# Altium schematic symbol library Library.SchLib: 352 symbols (part 2 of 2)
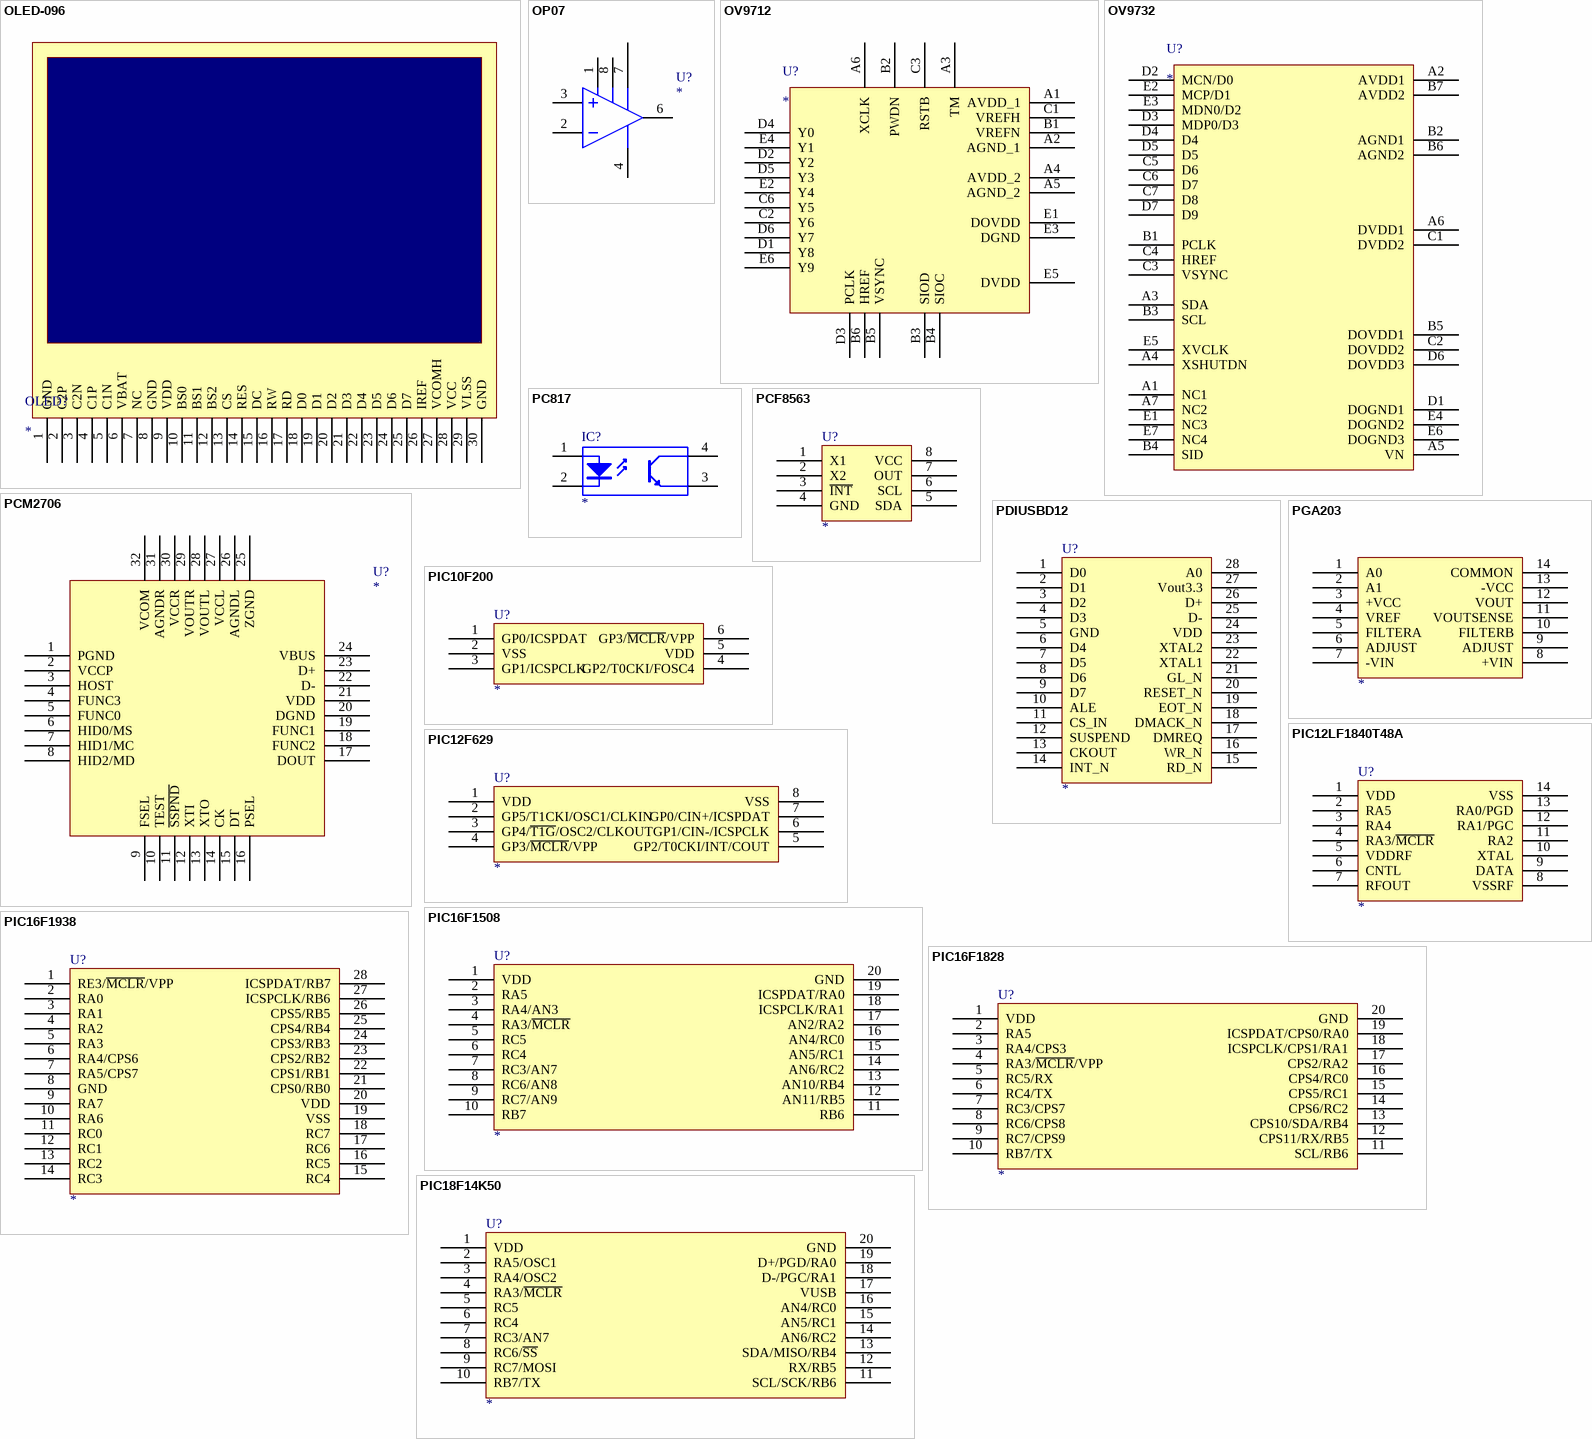
[diagram p23: symbols OLED-096 to PIC18F14K50]

## PIC16F1828
designator U?
footprint TSSOP-20
pins: 1 VDD, 2 RA5, 3 RA4/CPS3, 4 RA3/~{MCLR}/VPP, 5 RC5/RX, 6 RC4/TX, 7 RC3/CPS7, 8 RC6/CPS8, 9 RC7/CPS9, 10 RB7/TX, 11 SCL/RB6, 12 CPS11/RX/RB5, 13 CPS10/SDA/RB4, 14 CPS6/RC2, 15 CPS5/RC1, 16 CPS4/RC0, 17 CPS2/RA2, 18 ICSPCLK/CPS1/RA1, 19 ICSPDAT/CPS0/RA0, 20 GND

## PIC16F1938
designator U?
footprint TSSOP-28
pins: 1 RE3/~{MCLR}/VPP, 2 RA0, 3 RA1, 4 RA2, 5 RA3, 6 RA4/CPS6, 7 RA5/CPS7, 8 GND, 9 RA7, 10 RA6, 11 RC0, 12 RC1, 13 RC2, 14 RC3, 15 RC4, 16 RC5, 17 RC6, 18 RC7, 19 VSS, 20 VDD, 21 CPS0/RB0, 22 CPS1/RB1, 23 CPS2/RB2, 24 CPS3/RB3, 25 CPS4/RB4, 26 CPS5/RB5, 27 ICSPCLK/RB6, 28 ICSPDAT/RB7

## PIC18F14K50
designator U?
footprint TSSOP-20
pins: 1 VDD, 2 RA5/OSC1, 3 RA4/OSC2, 4 RA3/~{MCLR}, 5 RC5, 6 RC4, 7 RC3/AN7, 8 RC6/~{SS}, 9 RC7/MOSI, 10 RB7/TX, 11 SCL/SCK/RB6, 12 RX/RB5, 13 SDA/MISO/RB4, 14 AN6/RC2, 15 AN5/RC1, 16 AN4/RC0, 17 VUSB, 18 D-/PGC/RA1, 19 D+/PGD/RA0, 20 GND

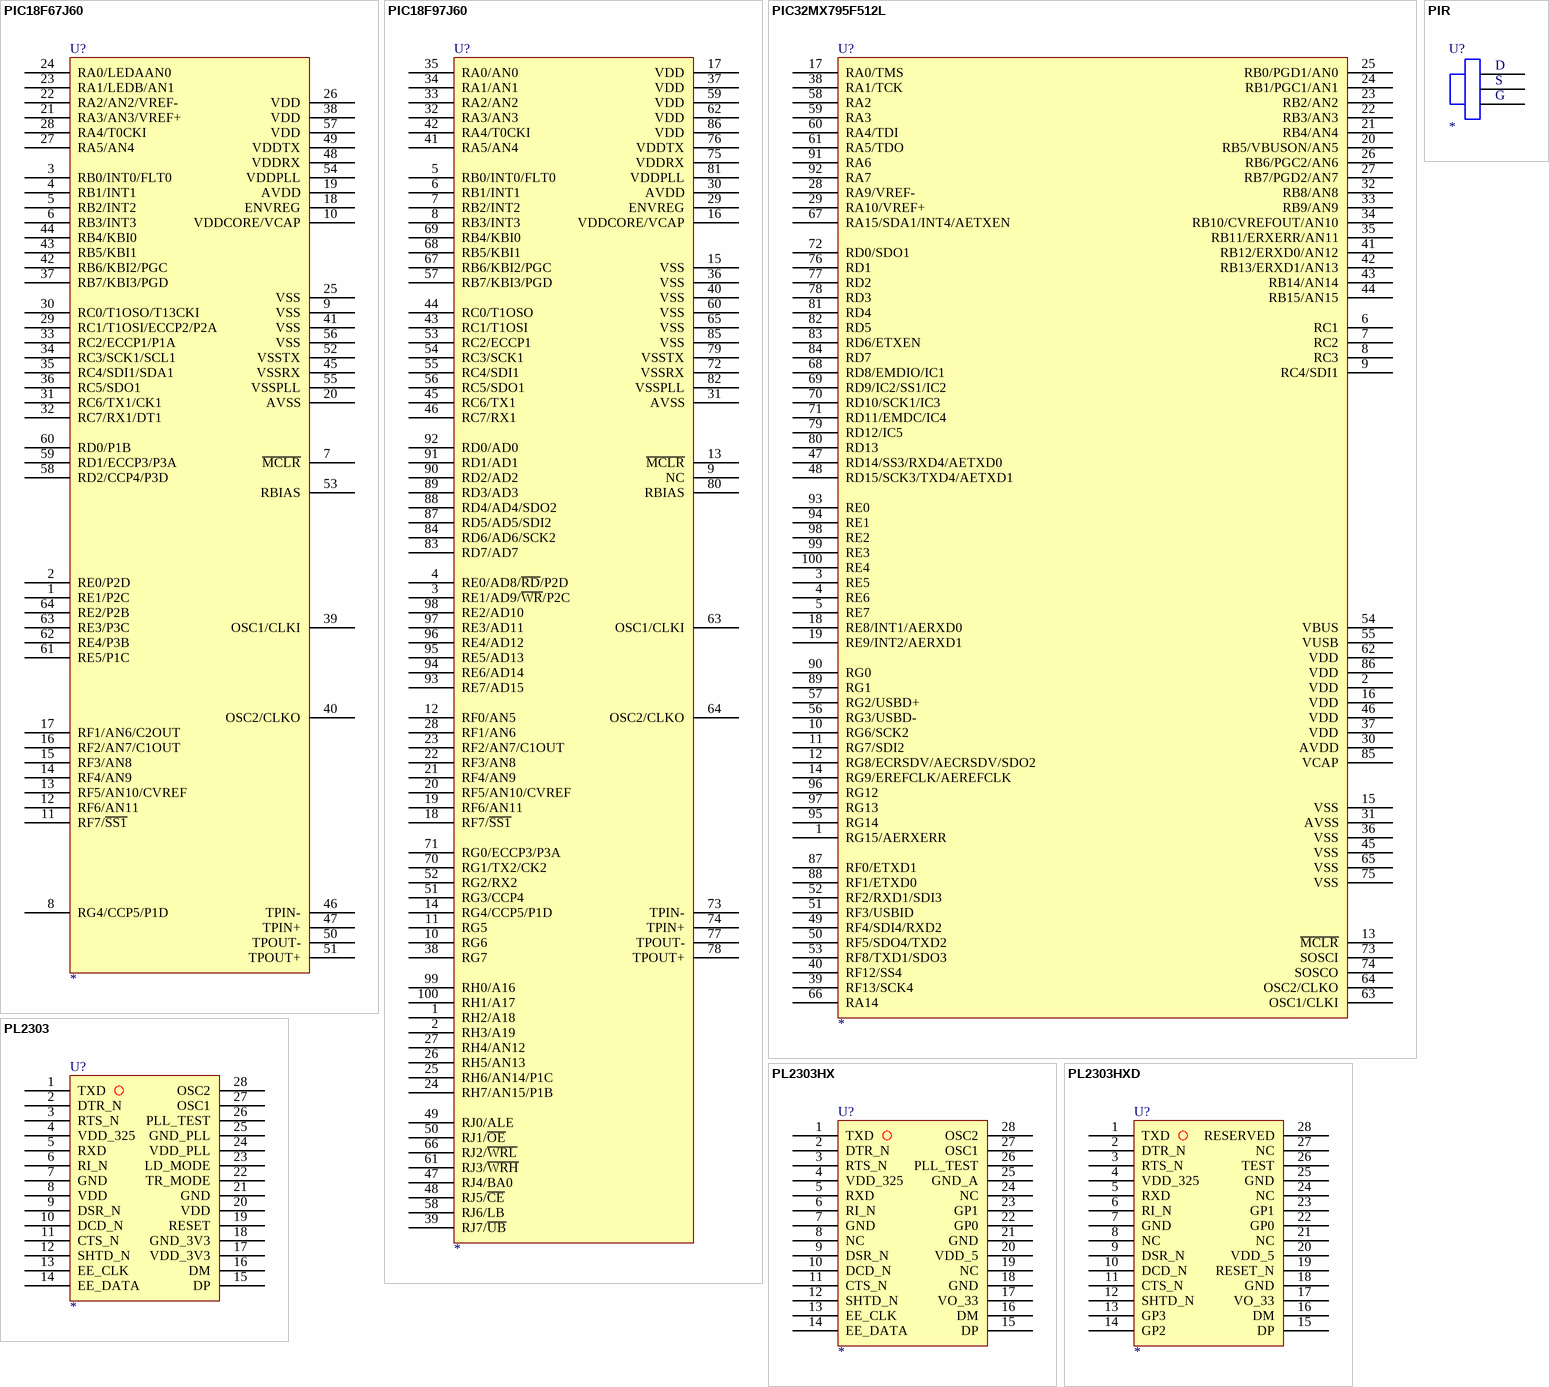
[diagram p12: symbols PIC18F67J60 to PL2303HXD]

## PIC18F67J60
designator U?
footprint LQFP-64
pins: 1 RE1/P2C, 2 RE0/P2D, 3 RB0/INT0/FLT0, 4 RB1/INT1, 5 RB2/INT2, 6 RB3/INT3, 7 ~{MCLR}, 8 RG4/CCP5/P1D, 9 VSS, 10 VDDCORE/VCAP, 11 RF7/~{SS1}, 12 RF6/AN11, 13 RF5/AN10/CVREF, 14 RF4/AN9, 15 RF3/AN8, 16 RF2/AN7/C1OUT, 17 RF1/AN6/C2OUT, 18 ENVREG, 19 AVDD, 20 AVSS, 21 RA3/AN3/VREF+, 22 RA2/AN2/VREF-, 23 RA1/LEDB/AN1, 24 RA0/LEDAAN0, 25 VSS, 26 VDD, 27 RA5/AN4, 28 RA4/T0CKI, 29 RC1/T1OSI/ECCP2/P2A, 30 RC0/T1OSO/T13CKI, 31 RC6/TX1/CK1, 32 RC7/RX1/DT1, 33 RC2/ECCP1/P1A, 34 RC3/SCK1/SCL1, 35 RC4/SDI1/SDA1, 36 RC5/SDO1, 37 RB7/KBI3/PGD, 38 VDD, 39 OSC1/CLKI, 40 OSC2/CLKO, 41 VSS, 42 RB6/KBI2/PGC, 43 RB5/KBI1, 44 RB4/KBI0, 45 VSSRX, 46 TPIN-, 47 TPIN+, 48 VDDRX, 49 VDDTX, 50 TPOUT-, 51 TPOUT+, 52 VSSTX, 53 RBIAS, 54 VDDPLL, 55 VSSPLL, 56 VSS, 57 VDD, 58 RD2/CCP4/P3D, 59 RD1/ECCP3/P3A, 60 RD0/P1B, 61 RE5/P1C, 62 RE4/P3B, 63 RE3/P3C, 64 RE2/P2B

## PIC18F97J60
designator U?
footprint PIC18F97J60
footprint LQFP-100
pins: 1 RH2/A18, 2 RH3/A19, 3 RE1/AD9/~{WR}/P2C, 4 RE0/AD8/~{RD}/P2D, 5 RB0/INT0/FLT0, 6 RB1/INT1, 7 RB2/INT2, 8 RB3/INT3, 9 NC, 10 RG6, 11 RG5, 12 RF0/AN5, 13 ~{MCLR}, 14 RG4/CCP5/P1D, 15 VSS, 16 VDDCORE/VCAP, 17 VDD, 18 RF7/~{SS1}, 19 RF6/AN11, 20 RF5/AN10/CVREF, 21 RF4/AN9, 22 RF3/AN8, 23 RF2/AN7/C1OUT, 24 RH7/AN15/P1B, 25 RH6/AN14/P1C, 26 RH5/AN13, 27 RH4/AN12, 28 RF1/AN6, 29 ENVREG, 30 AVDD, 31 AVSS, 32 RA3/AN3, 33 RA2/AN2, 34 RA1/AN1, 35 RA0/AN0, 36 VSS, 37 VDD, 38 RG7, 39 RJ7/~{UB}, 40 VSS, 41 RA5/AN4, 42 RA4/T0CKI, 43 RC1/T1OSI, 44 RC0/T1OSO, 45 RC6/TX1, 46 RC7/RX1, 47 RJ4/BA0, 48 RJ5/~{CE}, 49 RJ0/ALE, 50 RJ1/~{OE}, 51 RG3/CCP4, 52 RG2/RX2, 53 RC2/ECCP1, 54 RC3/SCK1, 55 RC4/SDI1, 56 RC5/SDO1, 57 RB7/KBI3/PGD, 58 RJ6/LB, 59 VDD, 60 VSS, 61 RJ3/~{WRH}, 62 VDD, 63 OSC1/CLKI, 64 OSC2/CLKO, 65 VSS, 66 RJ2/~{WRL}, 67 RB6/KBI2/PGC, 68 RB5/KBI1, 69 RB4/KBI0, 70 RG1/TX2/CK2, 71 RG0/ECCP3/P3A, 72 VSSRX, 73 TPIN-, 74 TPIN+, 75 VDDRX, 76 VDDTX, 77 TPOUT-, 78 TPOUT+, 79 VSSTX, 80 RBIAS, 81 VDDPLL, 82 VSSPLL, 83 RD7/AD7, 84 RD6/AD6/SCK2, 85 VSS, 86 VDD, 87 RD5/AD5/SDI2, 88 RD4/AD4/SDO2, 89 RD3/AD3, 90 RD2/AD2, 91 RD1/AD1, 92 RD0/AD0, 93 RE7/AD15, 94 RE6/AD14, 95 RE5/AD13, 96 RE4/AD12, 97 RE3/AD11, 98 RE2/AD10, 99 RH0/A16, 100 RH1/A17

## PIC32MX795F512L
designator U?
footprint LQFP-100
pins: 1 RG15/AERXERR, 2 VDD, 3 RE5, 4 RE6, 5 RE7, 6 RC1, 7 RC2, 8 RC3, 9 RC4/SDI1, 10 RG6/SCK2, 11 RG7/SDI2, 12 RG8/ECRSDV/AECRSDV/SDO2, 13 ~{MCLR}, 14 RG9/EREFCLK/AEREFCLK, 15 VSS, 16 VDD, 17 RA0/TMS, 18 RE8/INT1/AERXD0, 19 RE9/INT2/AERXD1, 20 RB5/VBUSON/AN5, 21 RB4/AN4, 22 RB3/AN3, 23 RB2/AN2, 24 RB1/PGC1/AN1, 25 RB0/PGD1/AN0, 26 RB6/PGC2/AN6, 27 RB7/PGD2/AN7, 28 RA9/VREF-, 29 RA10/VREF+, 30 AVDD, 31 AVSS, 32 RB8/AN8, 33 RB9/AN9, 34 RB10/CVREFOUT/AN10, 35 RB11/ERXERR/AN11, 36 VSS, 37 VDD, 38 RA1/TCK, 39 RF13/SCK4, 40 RF12/SS4, 41 RB12/ERXD0/AN12, 42 RB13/ERXD1/AN13, 43 RB14/AN14, 44 RB15/AN15, 45 VSS, 46 VDD, 47 RD14/SS3/RXD4/AETXD0, 48 RD15/SCK3/TXD4/AETXD1, 49 RF4/SDI4/RXD2, 50 RF5/SDO4/TXD2, 51 RF3/USBID, 52 RF2/RXD1/SDI3, 53 RF8/TXD1/SDO3, 54 VBUS, 55 VUSB, 56 RG3/USBD-, 57 RG2/USBD+, 58 RA2, 59 RA3, 60 RA4/TDI, 61 RA5/TDO, 62 VDD, 63 OSC1/CLKI, 64 OSC2/CLKO, 65 VSS, 66 RA14, 67 RA15/SDA1/INT4/AETXEN, 68 RD8/EMDIO/IC1, 69 RD9/IC2/SS1/IC2, 70 RD10/SCK1/IC3, 71 RD11/EMDC/IC4, 72 RD0/SDO1, 73 SOSCI, 74 SOSCO, 75 VSS, 76 RD1, 77 RD2, 78 RD3, 79 RD12/IC5, 80 RD13, 81 RD4, 82 RD5, 83 RD6/ETXEN, 84 RD7, 85 VCAP, 86 VDD, 87 RF0/ETXD1, 88 RF1/ETXD0, 89 RG1, 90 RG0, 91 RA6, 92 RA7, 93 RE0, 94 RE1, 95 RG14, 96 RG12, 97 RG13, 98 RE2, 99 RE3, 100 RE4

## PIR
designator U?
pins: 1 D, 2 S, 3 G

## PL2303
designator U?
footprint TSSOP-28
pins: 1 TXD, 2 DTR_N, 3 RTS_N, 4 VDD_325, 5 RXD, 6 RI_N, 7 GND, 8 VDD, 9 DSR_N, 10 DCD_N, 11 CTS_N, 12 SHTD_N, 13 EE_CLK, 14 EE_DATA, 15 DP, 16 DM, 17 VDD_3V3, 18 GND_3V3, 19 RESET, 20 VDD, 21 GND, 22 TR_MODE, 23 LD_MODE, 24 VDD_PLL, 25 GND_PLL, 26 PLL_TEST, 27 OSC1, 28 OSC2

## PL2303HX
designator U?
footprint TSSOP-28
pins: 1 TXD, 2 DTR_N, 3 RTS_N, 4 VDD_325, 5 RXD, 6 RI_N, 7 GND, 8 NC, 9 DSR_N, 10 DCD_N, 11 CTS_N, 12 SHTD_N, 13 EE_CLK, 14 EE_DATA, 15 DP, 16 DM, 17 VO_33, 18 GND, 19 NC, 20 VDD_5, 21 GND, 22 GP0, 23 GP1, 24 NC, 25 GND_A, 26 PLL_TEST, 27 OSC1, 28 OSC2

## PL2303HXD
designator U?
footprint TSSOP-28
pins: 1 TXD, 2 DTR_N, 3 RTS_N, 4 VDD_325, 5 RXD, 6 RI_N, 7 GND, 8 NC, 9 DSR_N, 10 DCD_N, 11 CTS_N, 12 SHTD_N, 13 GP3, 14 GP2, 15 DP, 16 DM, 17 VO_33, 18 GND, 19 RESET_N, 20 VDD_5, 21 NC, 22 GP0, 23 GP1, 24 NC, 25 GND, 26 TEST, 27 NC, 28 RESERVED

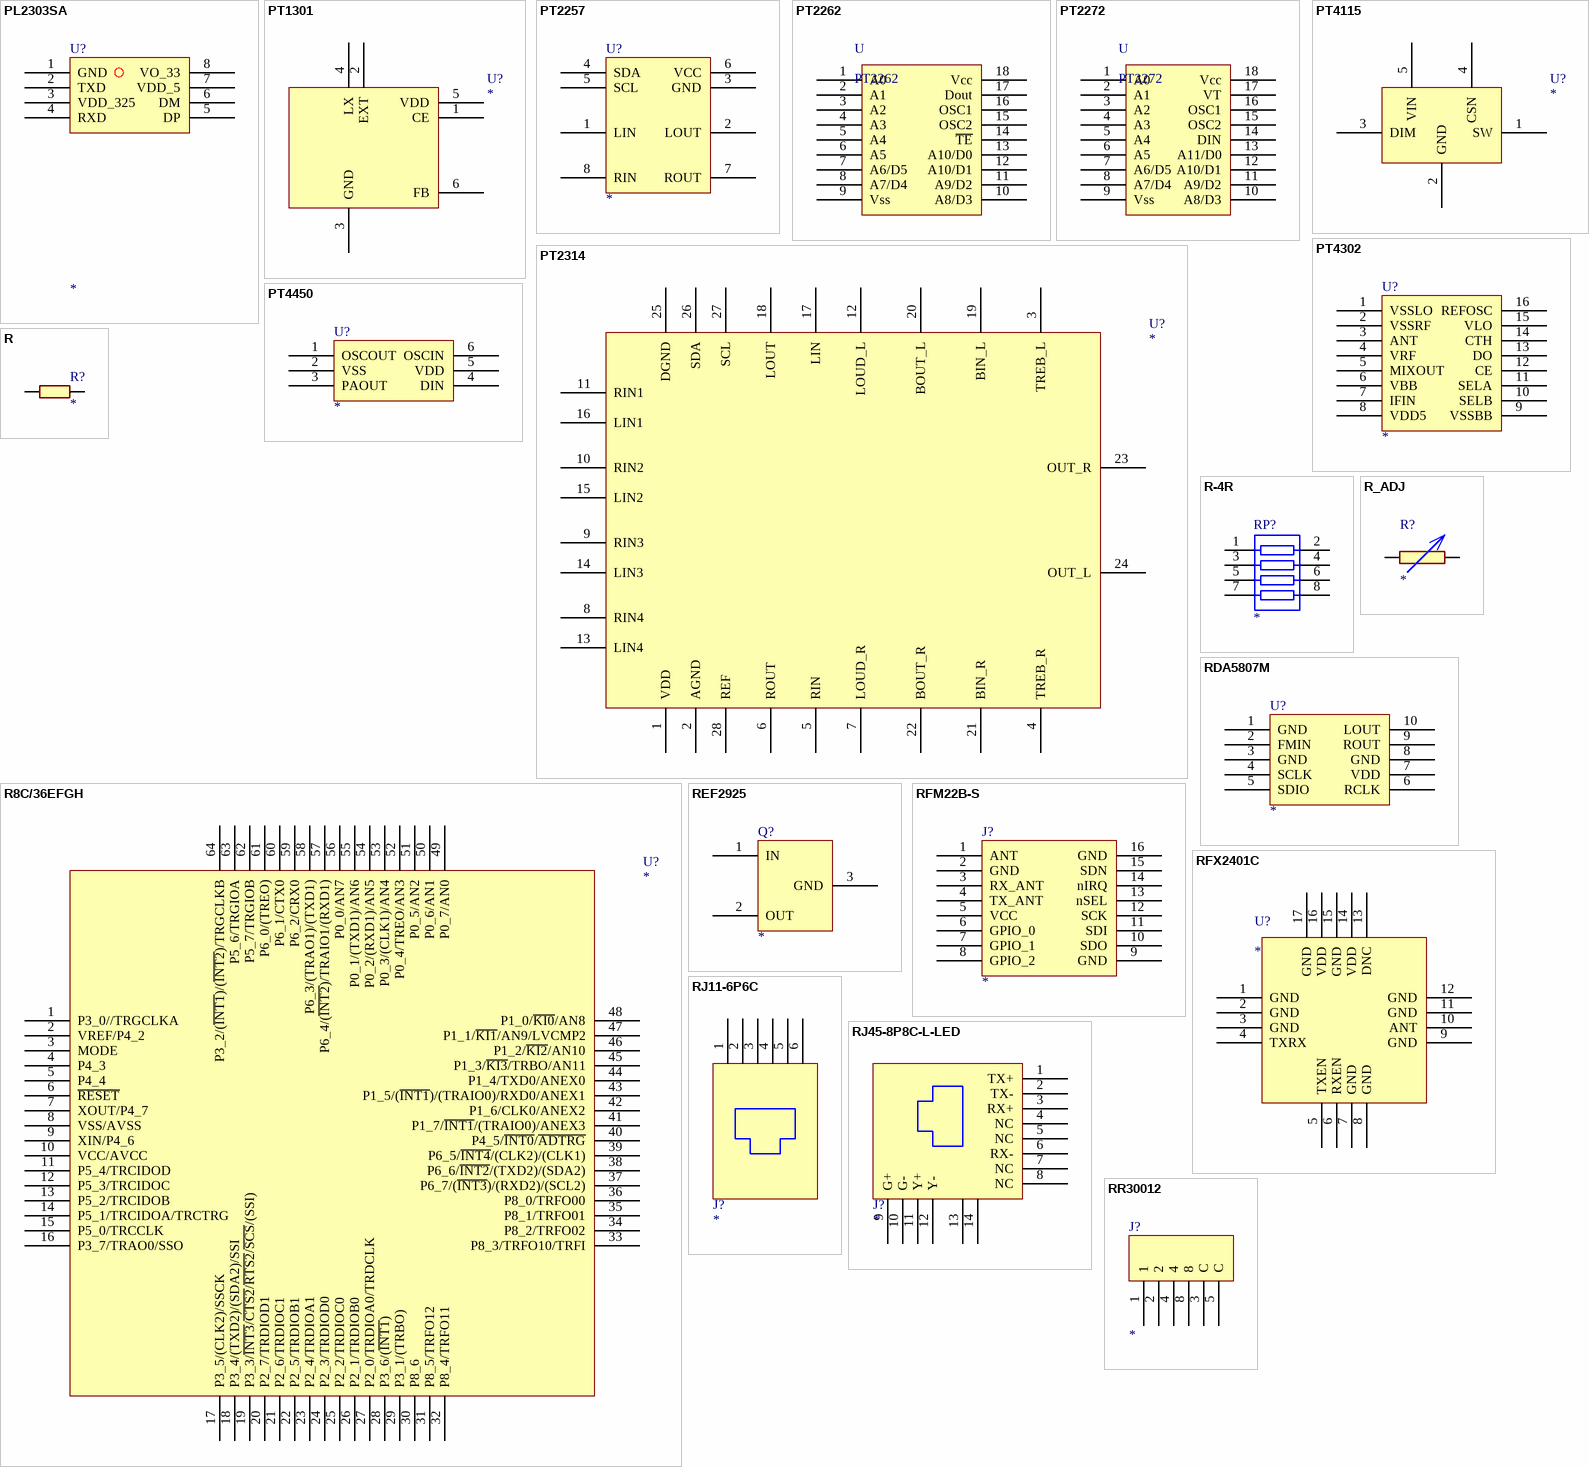
[diagram p13: symbols PL2303SA to RR30012]

## PL2303SA
designator U?
footprint SOP-8
pins: 1 GND, 2 TXD, 3 VDD_325, 4 RXD, 5 DP, 6 DM, 7 VDD_5, 8 VO_33

## PT1301
designator U?
footprint SOT-23-6
pins: 1 CE, 2 EXT, 3 GND, 4 LX, 5 VDD, 6 FB

## PT2257
designator U?
footprint DIP-8
pins: 1 LIN, 2 LOUT, 3 GND, 4 SDA, 5 SCL, 6 VCC, 7 ROUT, 8 RIN

## PT2262
designator U
pins: 1 A0, 2 A1, 3 A2, 4 A3, 5 A4, 6 A5, 7 A6/D5, 8 A7/D4, 9 Vss, 10 A8/D3, 11 A9/D2, 12 A10/D1, 13 A10/D0, 14 ~{TE}, 15 OSC2, 16 OSC1, 17 Dout, 18 Vcc

## PT2272
designator U
decoder
pins: 1 A0, 2 A1, 3 A2, 4 A3, 5 A4, 6 A5, 7 A6/D5, 8 A7/D4, 9 Vss, 10 A8/D3, 11 A9/D2, 12 A10/D1, 13 A11/D0, 14 DIN, 15 OSC2, 16 OSC1, 17 VT, 18 Vcc

## PT2314
designator U?
footprint SOP-28A
pins: 1 VDD, 2 AGND, 3 TREB_L, 4 TREB_R, 5 RIN, 6 ROUT, 7 LOUD_R, 8 RIN4, 9 RIN3, 10 RIN2, 11 RIN1, 12 LOUD_L, 13 LIN4, 14 LIN3, 15 LIN2, 16 LIN1, 17 LIN, 18 LOUT, 19 BIN_L, 20 BOUT_L, 21 BIN_R, 22 BOUT_R, 23 OUT_R, 24 OUT_L, 25 DGND, 26 SDA, 27 SCL, 28 REF

## PT4115
designator U?
pins: 1 SW, 2 GND, 3 DIM, 4 CSN, 5 VIN

## PT4302
designator U?
footprint PT4302
pins: 1 VSSLO, 2 VSSRF, 3 ANT, 4 VRF, 5 MIXOUT, 6 VBB, 7 IFIN, 8 VDD5, 9 VSSBB, 10 SELB, 11 SELA, 12 CE, 13 DO, 14 CTH, 15 VLO, 16 REFOSC

## PT4450
designator U?
footprint SOT-23-6
pins: 1 OSCOUT, 2 VSS, 3 PAOUT, 4 DIN, 5 VDD, 6 OSCIN

## R
designator R?
RES
footprint R0805
footprint R0603
footprint R0402
pins: 1, 2

## R8C/36EFGH
designator U?
pins: 1 P3_0//TRGCLKA, 2 VREF/P4_2, 3 MODE, 4 P4_3, 5 P4_4, 6 ~{RESET}, 7 XOUT/P4_7, 8 VSS/AVSS, 9 XIN/P4_6, 10 VCC/AVCC, 11 P5_4/TRCIDOD, 12 P5_3/TRCIDOC, 13 P5_2/TRCIDOB, 14 P5_1/TRCIDOA/TRCTRG, 15 P5_0/TRCCLK, 16 P3_7/TRAO0/SSO, 17 P3_5/(CLK2)/SSCK, 18 P3_4/(TXD2)/(SDA2)/SSI, 19 P3_3/~{INT3}/~{CTS2}/~{RTS2}/~{SCS}/(SSI), 20 P2_7/TRDIOD1, 21 P2_6/TRDIOC1, 22 P2_5/TRDIOB1, 23 P2_4/TRDIOA1, 24 P2_3/TRDIOD0, 25 P2_2/TRDIOC0, 26 P2_1/TRDIOB0, 27 P2_0/TRDIOA0/TRDCLK, 28 P3_6/(~{INT1}), 29 P3_1/(TRBO), 30 P8_6, 31 P8_5/TRFO12, 32 P8_4/TRFO11, 33 P8_3/TRFO10/TRFI, 34 P8_2/TRFO02, 35 P8_1/TRFO01, 36 P8_0/TRFO00, 37 P6_7/(~{INT3})/(RXD2)/(SCL2), 38 P6_6/~{INT2}/(TXD2)/(SDA2), 39 P6_5/~{INT4}/(CLK2)/(CLK1), 40 P4_5/~{INT0}/~{ADTRG}, 41 P1_7/~{INT1}/(TRAIO0)/ANEX3, 42 P1_6/CLK0/ANEX2, 43 P1_5/(~{INT1})/(TRAIO0)/RXD0/ANEX1, 44 P1_4/TXD0/ANEX0, 45 P1_3/~{KI3}/TRBO/AN11, 46 P1_2/~{KI2}/AN10, 47 P1_1/~{KI1}/AN9/LVCMP2, 48 P1_0/~{KI0}/AN8, 49 P0_7/AN0, 50 P0_6/AN1, 51 P0_5/AN2, 52 P0_4/TREO/AN3, 53 P0_3/(CLK1)/AN4, 54 P0_2/(RXD1)/AN5, 55 P0_1/(TXD1)/AN6, 56 P0_0/AN7, 57 P6_4/(~{INT2})/TRAIO1/(RXD1), 58 P6_3/(TRAO1)/(TXD1), 59 P6_2/CRX0, 60 P6_1/CTX0, 61 P6_0/(TREO), 62 P5_7/TRGIOB, 63 P5_6/TRGIOA, 64 P3_2/(~{INT1})/(~{INT2})/TRGCLKB

## R-4R
designator RP?
footprint PZ-4
pins: 1, 2, 3, 4, 5, 6, 7, 8

## R_ADJ
designator R?
footprint R8F1W
footprint R2F1W
footprint R1W
pins: 1, 2

## RDA5807M
designator U?
footprint MSOP-10
pins: 1 GND, 2 FMIN, 3 GND, 4 SCLK, 5 SDIO, 6 RCLK, 7 VDD, 8 GND, 9 ROUT, 10 LOUT

## REF2925
designator Q?
footprint SOT-23
pins: 1 IN, 2 OUT, 3 GND

## RFM22B-S
designator J?
footprint RFM22B-S
pins: 1 ANT, 2 GND, 3 RX_ANT, 4 TX_ANT, 5 VCC, 6 GPIO_0, 7 GPIO_1, 8 GPIO_2, 9 GND, 10 SDO, 11 SDI, 12 SCK, 13 nSEL, 14 nIRQ, 15 SDN, 16 GND

## RFX2401C
designator U?
Chip
footprint QFN-16
pins: 1 GND, 2 GND, 3 GND, 4 TXRX, 5 TXEN, 6 RXEN, 7 GND, 8 GND, 9 GND, 10 ANT, 11 GND, 12 GND, 13 DNC, 14 VDD, 15 GND, 16 VDD, 17 GND

## RJ11-6P6C
designator J?
footprint RJ11-6P6C
pins: 1 OUT, 2 OUT, 3 OUT, 4 OUT, 5 OUT, 6 OUT

## RJ45-8P8C-L-LED
designator J?
ETH Socket
footprint RJ45-8P8C-L-LED
pins: 1 TX+, 2 TX-, 3 RX+, 4 NC, 5 NC, 6 RX-, 7 NC, 8 NC, 9 G+, 10 G-, 11 Y+, 12 Y-, 13, 14

## RR30012
designator J?
footprint RR30012
pins: 1, 2, 3 C, 4, 5 C, 8

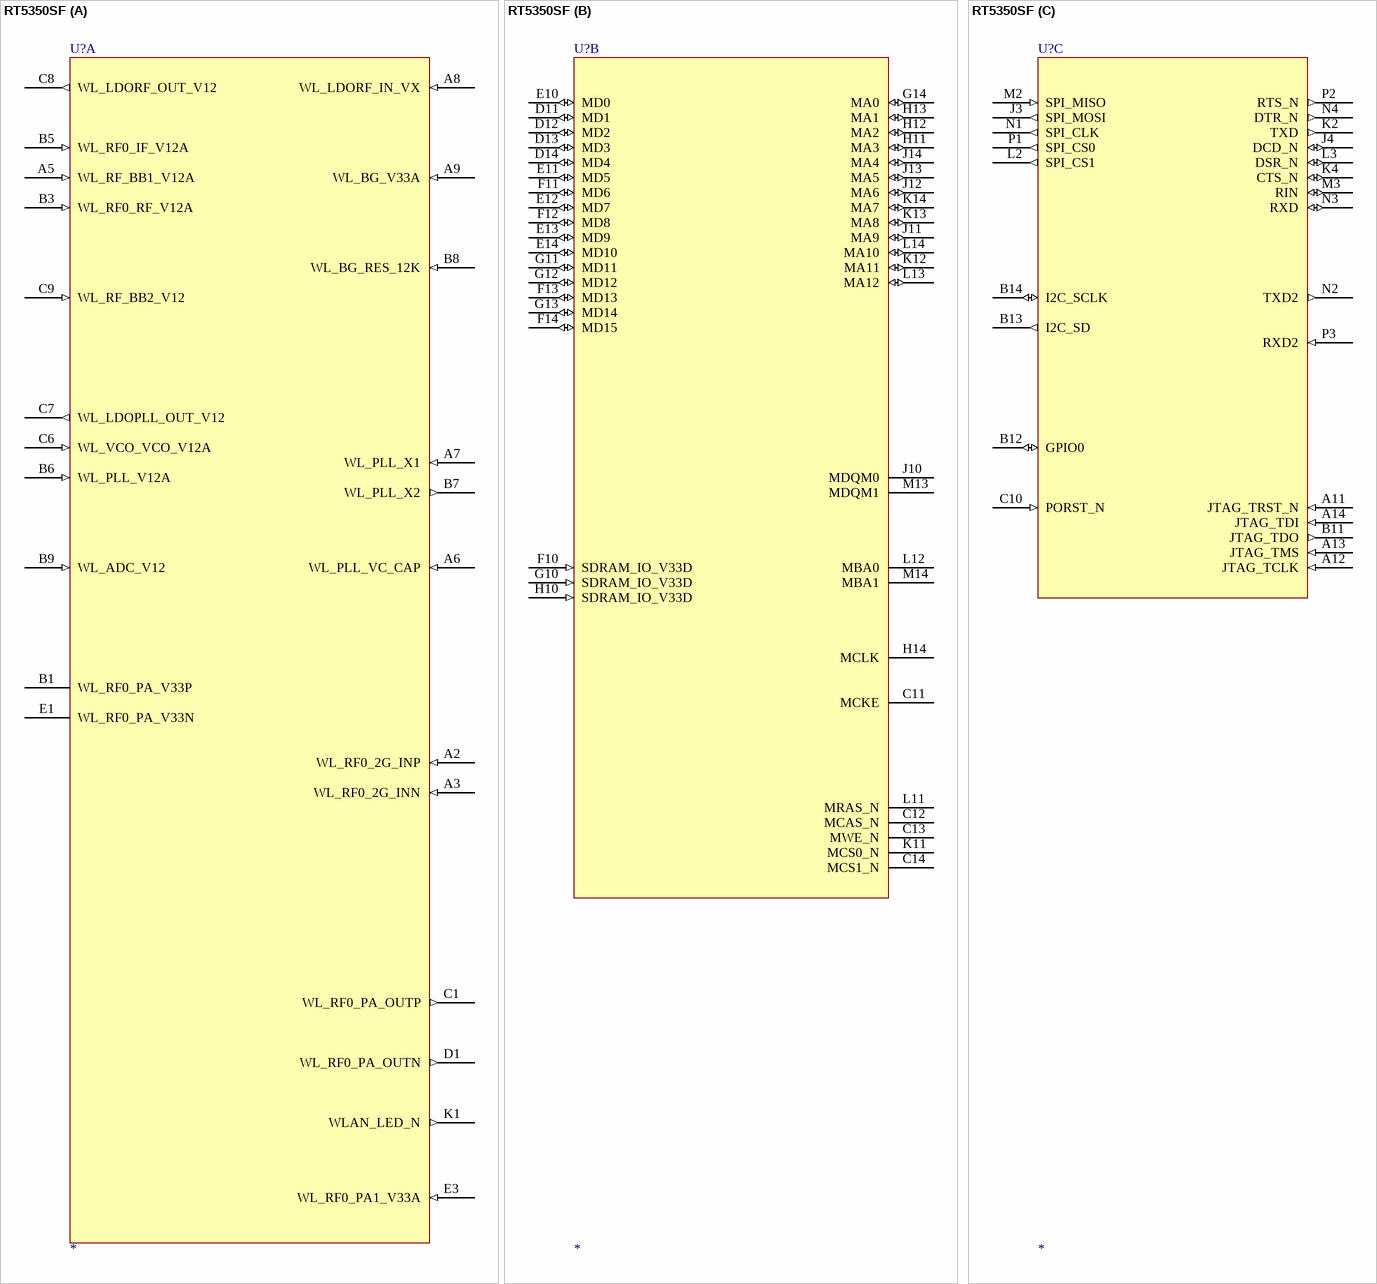
[diagram p14: symbol RT5350SF]

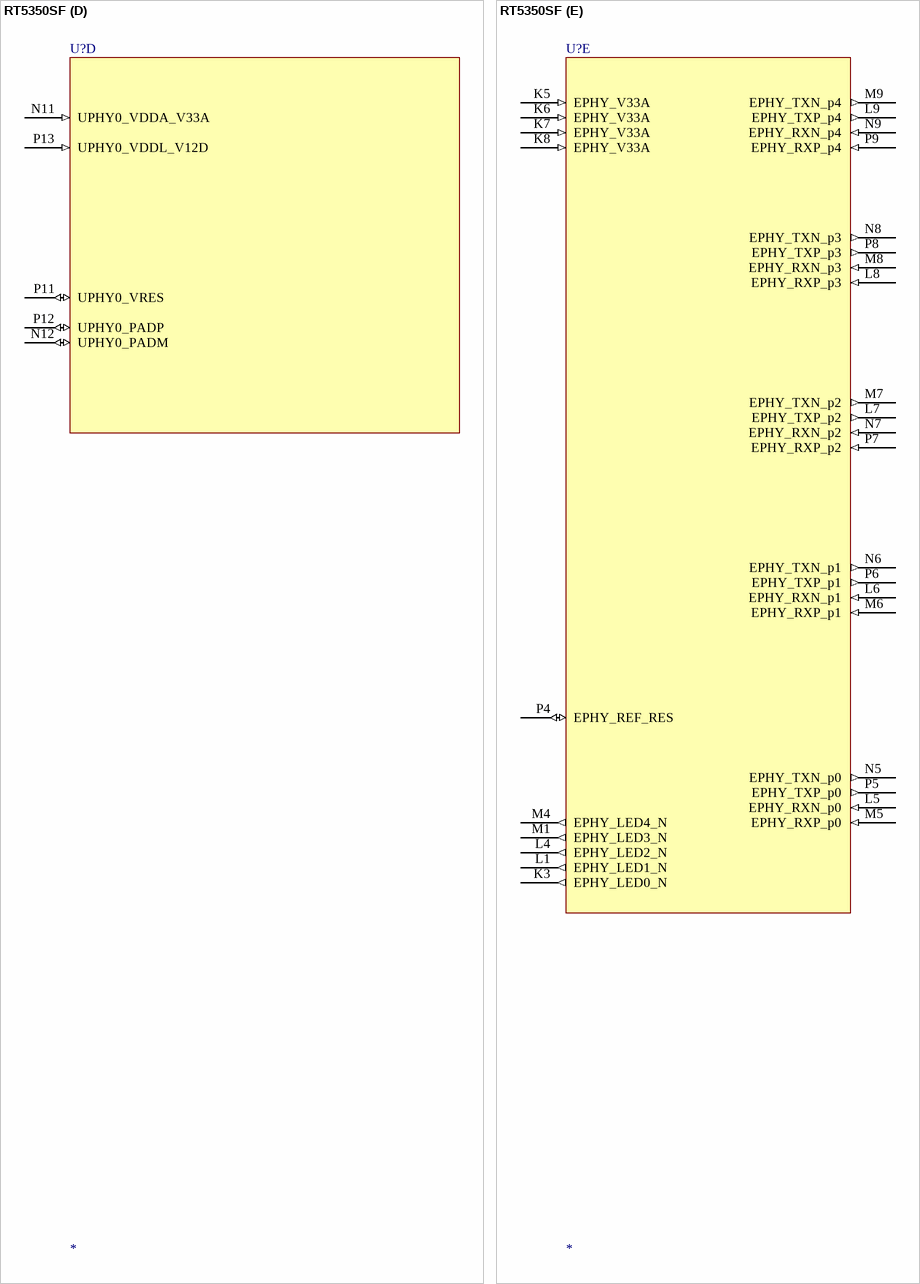
[diagram p15: symbol RT5350SF]

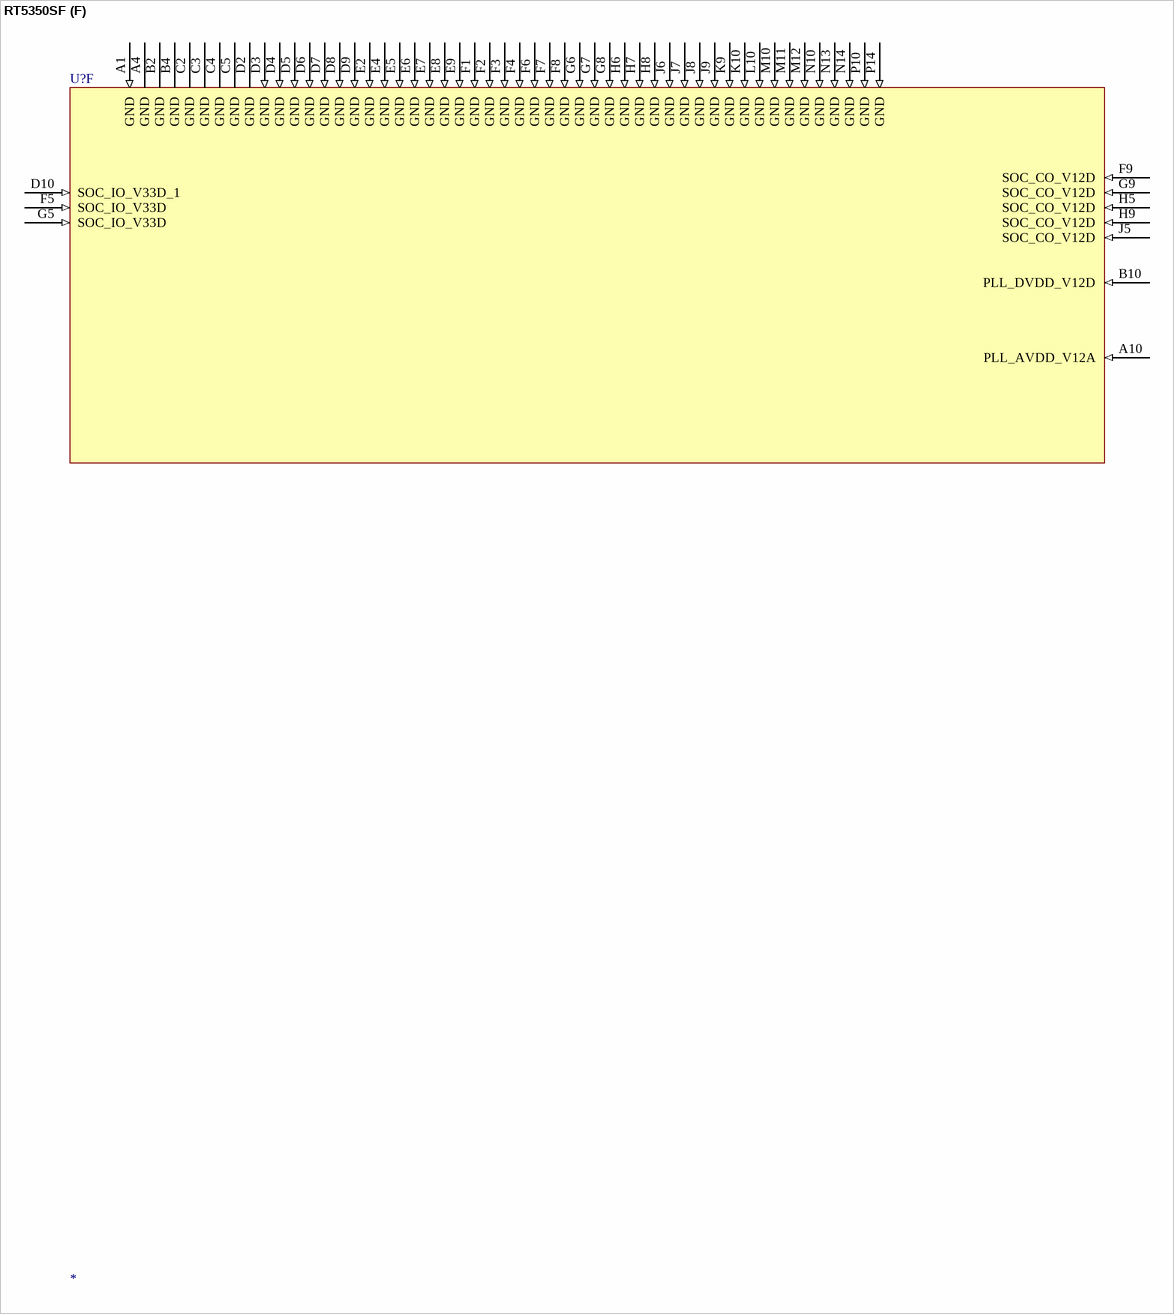
[diagram p16: symbol RT5350SF]

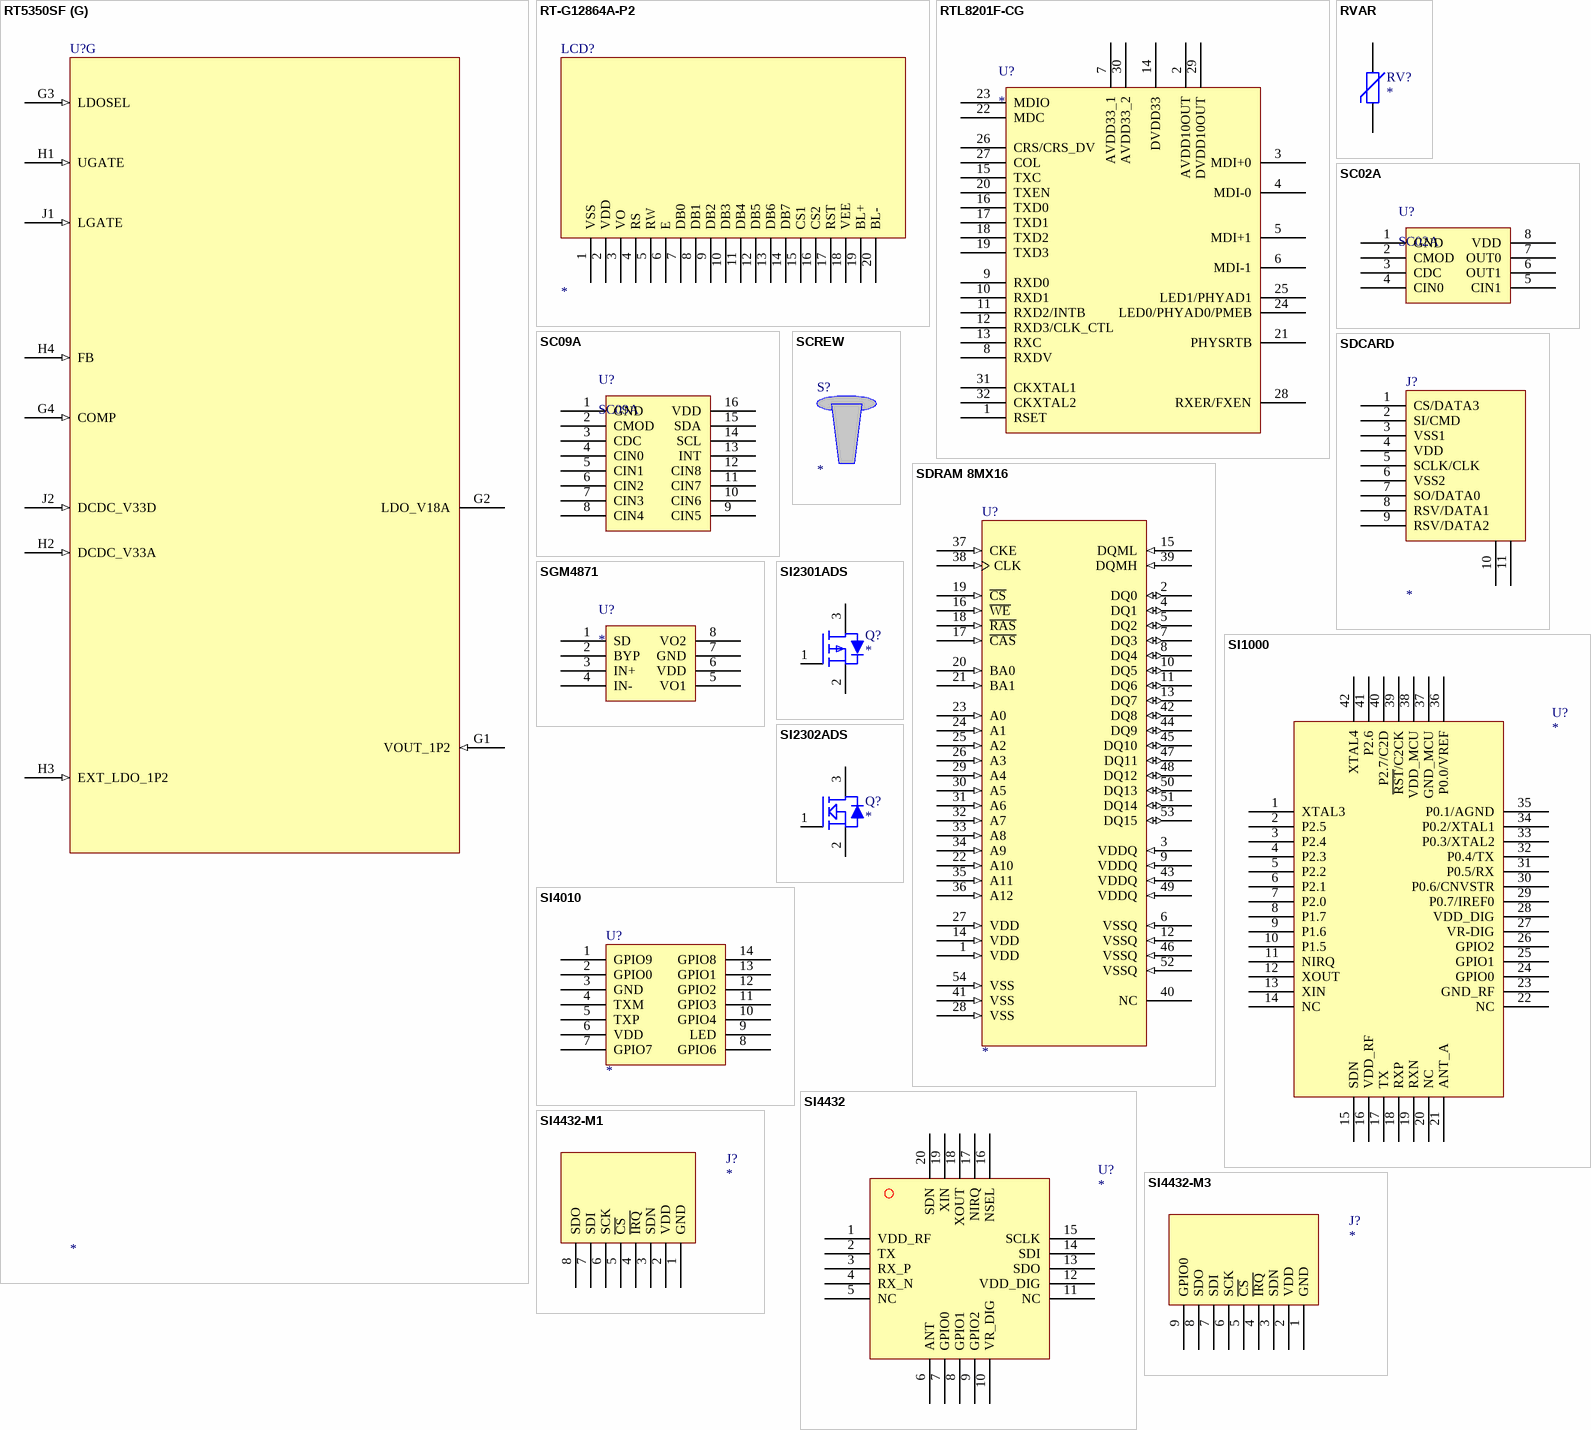
[diagram p17: symbols RT5350SF to SI4432-M3]

## RT5350SF
designator U?
Text Field1: 240; Text Field2: 790
footprint BGA196
part A pins: A2 WL_RF0_2G_INP (in), A3 WL_RF0_2G_INN (in), A5 WL_RF_BB1_V12A (in), A6 WL_PLL_VC_CAP (in), A7 WL_PLL_X1 (in), A8 WL_LDORF_IN_VX (in), A9 WL_BG_V33A (in), B1 WL_RF0_PA_V33P, B3 WL_RF0_RF_V12A (in), B5 WL_RF0_IF_V12A (in), B6 WL_PLL_V12A (in), B7 WL_PLL_X2 (out), B8 WL_BG_RES_12K (in), B9 WL_ADC_V12 (in), C1 WL_RF0_PA_OUTP (out), C6 WL_VCO_VCO_V12A (in), C7 WL_LDOPLL_OUT_V12 (out), C8 WL_LDORF_OUT_V12 (out), C9 WL_RF_BB2_V12 (in), D1 WL_RF0_PA_OUTN (out), E1 WL_RF0_PA_V33N, E3 WL_RF0_PA1_V33A (in), K1 WLAN_LED_N (out)
part B pins: C11 MCKE, C12 MCAS_N, C13 MWE_N, C14 MCS1_N, D11 MD1 (io), D12 MD2 (io), D13 MD3 (io), D14 MD4 (io), E10 MD0 (io), E11 MD5 (io), E12 MD7 (io), E13 MD9 (io), E14 MD10 (io), F10 SDRAM_IO_V33D (in), F11 MD6 (io), F12 MD8 (io), F13 MD13 (io), F14 MD15 (io), G10 SDRAM_IO_V33D (in), G11 MD11 (io), G12 MD12 (io), G13 MD14 (io), G14 MA0 (io), H10 SDRAM_IO_V33D (in), H11 MA3 (io), H12 MA2 (io), H13 MA1 (io), H14 MCLK, J10 MDQM0, J11 MA9 (io), J12 MA6 (io), J13 MA5 (io), J14 MA4 (io), K11 MCS0_N, K12 MA11 (io), K13 MA8 (io), K14 MA7 (io), L11 MRAS_N, L12 MBA0, L13 MA12 (io), L14 MA10 (io), M13 MDQM1, M14 MBA1
part C pins: A11 JTAG_TRST_N (in), A12 JTAG_TCLK (in), A13 JTAG_TMS (in), A14 JTAG_TDI (in), B11 JTAG_TDO (out), B12 GPIO0 (io), B13 I2C_SD (out), B14 I2C_SCLK (io), C10 PORST_N (in), J3 SPI_MOSI (out), J4 DCD_N (io), K2 TXD (out), K4 CTS_N (io), L2 SPI_CS1 (out), L3 DSR_N (io), M2 SPI_MISO (in), M3 RIN (io), N1 SPI_CLK (out), N2 TXD2 (out), N3 RXD (io), N4 DTR_N (out), P1 SPI_CS0 (out), P2 RTS_N (out), P3 RXD2 (in)
part D pins: N11 UPHY0_VDDA_V33A (in), N12 UPHY0_PADM (io), P11 UPHY0_VRES (io), P12 UPHY0_PADP (io), P13 UPHY0_VDDL_V12D (in)
part E pins: K3 EPHY_LED0_N (out), K5 EPHY_V33A (in), K6 EPHY_V33A (in), K7 EPHY_V33A (in), K8 EPHY_V33A (in), L1 EPHY_LED1_N (out), L4 EPHY_LED2_N (out), L5 EPHY_RXN_p0 (in), L6 EPHY_RXN_p1 (in), L7 EPHY_TXP_p2 (out), L8 EPHY_RXP_p3 (in), L9 EPHY_TXP_p4 (out), M1 EPHY_LED3_N (out), M4 EPHY_LED4_N (out), M5 EPHY_RXP_p0 (in), M6 EPHY_RXP_p1 (in), M7 EPHY_TXN_p2 (out), M8 EPHY_RXN_p3 (in), M9 EPHY_TXN_p4 (out), N5 EPHY_TXN_p0 (out), N6 EPHY_TXN_p1 (out), N7 EPHY_RXN_p2 (in), N8 EPHY_TXN_p3 (out), N9 EPHY_RXN_p4 (in), P4 EPHY_REF_RES (io), P5 EPHY_TXP_p0 (out), P6 EPHY_TXP_p1 (out), P7 EPHY_RXP_p2 (in), P8 EPHY_TXP_p3 (out), P9 EPHY_RXP_p4 (in)
part F pins: A1 GND (in), A4 GND, A10 PLL_AVDD_V12A (in), B2 GND, B4 GND, B10 PLL_DVDD_V12D (in), C2 GND, C3 GND, C4 GND, C5 GND, D2 GND, D3 GND (in), D4 GND (in), D5 GND (in), D6 GND (in), D7 GND (in), D8 GND (in), D9 GND (in), D10 SOC_IO_V33D_1 (in), E2 GND (in), E4 GND (in), E5 GND (in), E6 GND (in), E7 GND (in), E8 GND (in), E9 GND (in), F1 GND (in), F2 GND (in), F3 GND (in), F4 GND (in), F5 SOC_IO_V33D (in), F6 GND (in), F7 GND (in), F8 GND (in), F9 SOC_CO_V12D (in), G5 SOC_IO_V33D (in), G6 GND (in), G7 GND (in), G8 GND (in), G9 SOC_CO_V12D (in), H5 SOC_CO_V12D (in), H6 GND (in), H7 GND (in), H8 GND (in), H9 SOC_CO_V12D (in), J5 SOC_CO_V12D (in), J6 GND (in), J7 GND (in), J8 GND (in), J9 GND (in), K9 GND (in), K10 GND (in), L10 GND (in), M10 GND (in), M11 GND (in), M12 GND (in), N10 GND (in), N13 GND (in), N14 GND (in), P10 GND (in), P14 GND (in)
part G pins: G1 VOUT_1P2 (in), G2 LDO_V18A, G3 LDOSEL (in), G4 COMP (in), H1 UGATE (in), H2 DCDC_V33A (in), H3 EXT_LDO_1P2 (in), H4 FB (in), J1 LGATE (in), J2 DCDC_V33D (in)

## RT-G12864A-P2
designator LCD?
footprint SIP-20
pins: 1 VSS, 2 VDD, 3 VO, 4 RS, 5 RW, 6 E, 7 DB0, 8 DB1, 9 DB2, 10 DB3, 11 DB4, 12 DB5, 13 DB6, 14 DB7, 15 CS1, 16 CS2, 17 RST, 18 VEE, 19 BL+, 20 BL-

## RTL8201F-CG
designator U?
Chip
footprint QFN-40
pins: 1 RSET, 2 AVDD10OUT, 3 MDI+0, 4 MDI-0, 5 MDI+1, 6 MDI-1, 7 AVDD33_1, 8 RXDV, 9 RXD0, 10 RXD1, 11 RXD2/INTB, 12 RXD3/CLK_CTL, 13 RXC, 14 DVDD33, 15 TXC, 16 TXD0, 17 TXD1, 18 TXD2, 19 TXD3, 20 TXEN, 21 PHYSRTB, 22 MDC, 23 MDIO, 24 LED0/PHYAD0/PMEB, 25 LED1/PHYAD1, 26 CRS/CRS_DV, 27 COL, 28 RXER/FXEN, 29 DVDD10OUT, 30 AVDD33_2, 31 CKXTAL1, 32 CKXTAL2

## RVAR
designator RV?
footprint 14D471
footprint 7D471
pins: 1, 2

## SC02A
designator U?
footprint SOP-8
pins: 1 GND, 2 CMOD, 3 CDC, 4 CIN0, 5 CIN1, 6 OUT1, 7 OUT0, 8 VDD

## SC09A
designator U?
footprint SOP-16
pins: 1 GND, 2 CMOD, 3 CDC, 4 CIN0, 5 CIN1, 6 CIN2, 7 CIN3, 8 CIN4, 9 CIN5, 10 CIN6, 11 CIN7, 12 CIN8, 13 INT, 14 SCL, 15 SDA, 16 VDD

## SCREW
designator S?
footprint LS-01

## SDCARD
designator J?
footprint SDCARD
pins: 1 CS/DATA3, 2 SI/CMD, 3 VSS1, 4 VDD, 5 SCLK/CLK, 6 VSS2, 7 SO/DATA0, 8 RSV/DATA1, 9 RSV/DATA2, 10, 11

## SDRAM 8MX16
designator U?
Text Field1: 110; Text Field2: 350
footprint TSOP2-54P
pins: 1 VDD (in), 2 DQ0 (io), 3 VDDQ (in), 4 DQ1 (io), 5 DQ2 (io), 6 VSSQ (in), 7 DQ3 (io), 8 DQ4 (io), 9 VDDQ (in), 10 DQ5 (io), 11 DQ6 (io), 12 VSSQ (in), 13 DQ7 (io), 14 VDD (in), 15 DQML (in), 16 ~{WE} (in), 17 ~{CAS} (in), 18 ~{RAS} (in), 19 ~{CS} (in), 20 BA0 (in), 21 BA1 (in), 22 A10 (in), 23 A0 (in), 24 A1 (in), 25 A2 (in), 26 A3 (in), 27 VDD (in), 28 VSS (in), 29 A4 (in), 30 A5 (in), 31 A6 (in), 32 A7 (in), 33 A8 (in), 34 A9 (in), 35 A11 (in), 36 A12 (in), 37 CKE (in), 38 CLK (in), 39 DQMH (in), 40 NC, 41 VSS (in), 42 DQ8 (io), 43 VDDQ (in), 44 DQ9 (io), 45 DQ10 (io), 46 VSSQ (in), 47 DQ11 (io), 48 DQ12 (io), 49 VDDQ (in), 50 DQ13 (io), 51 DQ14 (io), 52 VSSQ (in), 53 DQ15 (io), 54 VSS (in)

## SGM4871
designator U?
Chip
footprint SOP-8
footprint SOP-8-EP
pins: 1 SD, 2 BYP, 3 IN+, 4 IN-, 5 VO1, 6 VDD, 7 GND, 8 VO2

## SI1000
designator U?
footprint SI1000
pins: 1 XTAL3, 2 P2.5, 3 P2.4, 4 P2.3, 5 P2.2, 6 P2.1, 7 P2.0, 8 P1.7, 9 P1.6, 10 P1.5, 11 NIRQ, 12 XOUT, 13 XIN, 14 NC, 15 SDN, 16 VDD_RF, 17 TX, 18 RXP, 19 RXN, 20 NC, 21 ANT_A, 22 NC, 23 GND_RF, 24 GPIO0, 25 GPIO1, 26 GPIO2, 27 VR-DIG, 28 VDD_DIG, 29 P0.7/IREF0, 30 P0.6/CNVSTR, 31 P0.5/RX, 32 P0.4/TX, 33 P0.3/XTAL2, 34 P0.2/XTAL1, 35 P0.1/AGND, 36 P0.0/VREF, 37 GND_MCU, 38 VDD_MCU, 39 ~{RST}/C2CK, 40 P2.7/C2D, 41 P2.6, 42 XTAL4

## SI2301ADS
designator Q?
footprint SOT-23
pins: 1 G, 2 S, 3 D

## SI2302ADS
designator Q?
footprint SOT-23
pins: 1 G, 2 S, 3 D

## SI4010
designator U?
footprint SOP-14
pins: 1 GPIO9, 2 GPIO0, 3 GND, 4 TXM, 5 TXP, 6 VDD, 7 GPIO7, 8 GPIO6, 9 LED, 10 GPIO4, 11 GPIO3, 12 GPIO2, 13 GPIO1, 14 GPIO8

## SI4432
designator U?
footprint SI4432
pins: 1 VDD_RF, 2 TX, 3 RX_P, 4 RX_N, 5 NC, 6 ANT, 7 GPIO0, 8 GPIO1, 9 GPIO2, 10 VR_DIG, 11 NC, 12 VDD_DIG, 13 SDO, 14 SDI, 15 SCLK, 16 NSEL, 17 NIRQ, 18 XOUT, 19 XIN, 20 SDN, 21 GND hidden to GND

## SI4432-M1
designator J?
footprint SI4432-M1
pins: 1 GND, 2 VDD, 3 SDN, 4 ~{IRQ}, 5 ~{CS}, 6 SCK, 7 SDI, 8 SDO

## SI4432-M3
designator J?
footprint SI4432-M3
pins: 1 GND, 2 VDD, 3 SDN, 4 ~{IRQ}, 5 ~{CS}, 6 SCK, 7 SDI, 8 SDO, 9 GPIO0

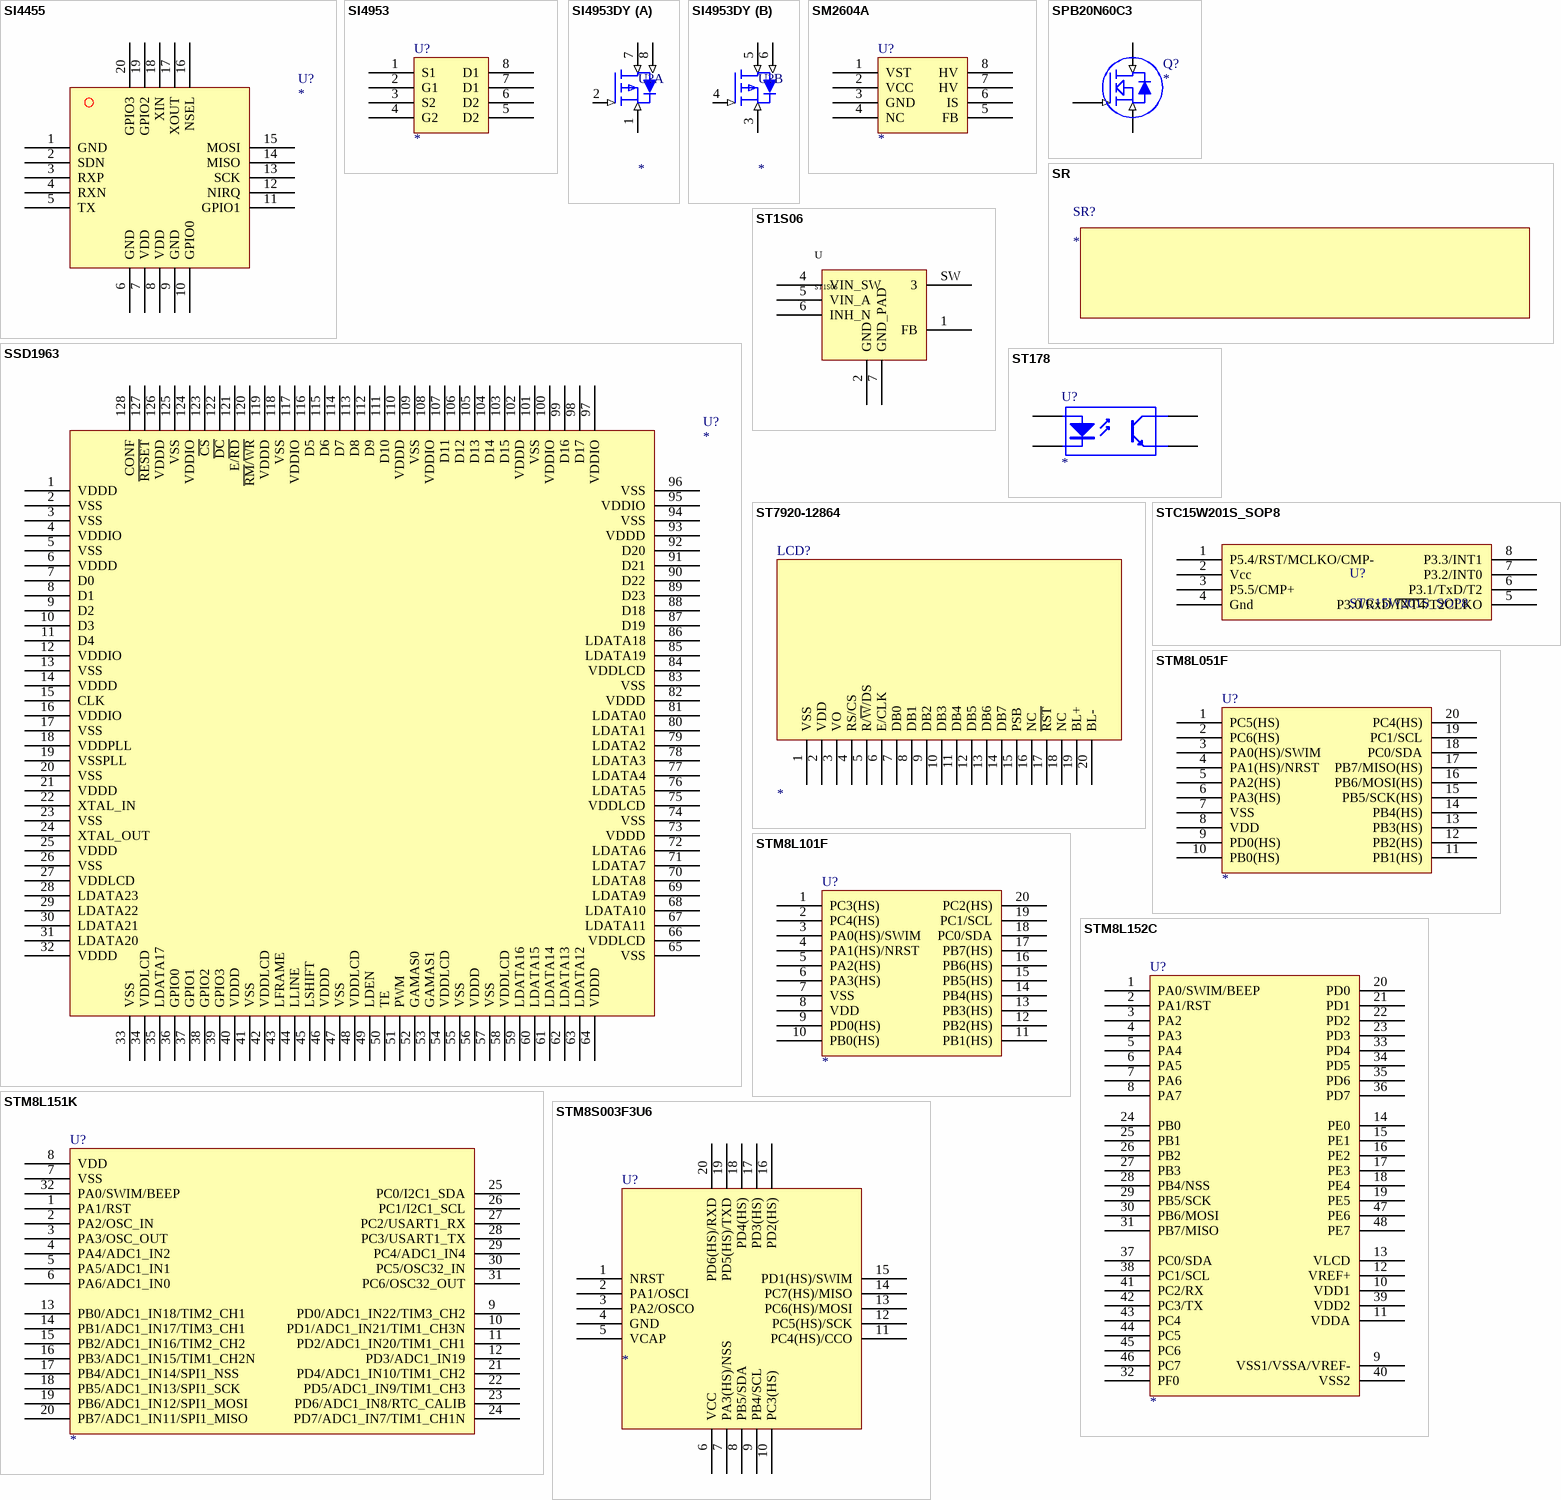
[diagram p18: symbols SI4455 to STM8S003F3U6]

## SI4455
designator U?
CHIP
footprint SI4432
pins: 1 GND, 2 SDN, 3 RXP, 4 RXN, 5 TX, 6 GND, 7 VDD, 8 VDD, 9 GND, 10 GPIO0, 11 GPIO1, 12 NIRQ, 13 SCK, 14 MISO, 15 MOSI, 16 NSEL, 17 XOUT, 18 XIN, 19 GPIO2, 20 GPIO3, 21 GND hidden to GND

## SI4953
designator U?
footprint SOP-8
pins: 1 S1, 2 G1, 3 S2, 4 G2, 5 D2, 6 D2, 7 D1, 8 D1

## SI4953DY
designator U?
footprint SOP-8
part A pins: 1 S (in), 2 G (in), 7 D (in), 8 D (in)
part B pins: 3 S (in), 4 G (in), 5 D (in), 6 D (in)

## SM2604A
designator U?
footprint DIP-8
pins: 1 VST, 2 VCC, 3 GND, 4 NC, 5 FB, 6 IS, 7 HV, 8 HV

## SPB20N60C3
designator Q?
MOS
pins: 1 G (in), 2 D (in), 3 S (in)

## SR
designator SR?
SanRePian
footprint SR-01

## SSD1963
designator U?
footprint LQFP-128
pins: 1 VDDD, 2 VSS, 3 VSS, 4 VDDIO, 5 VSS, 6 VDDD, 7 D0, 8 D1, 9 D2, 10 D3, 11 D4, 12 VDDIO, 13 VSS, 14 VDDD, 15 CLK, 16 VDDIO, 17 VSS, 18 VDDPLL, 19 VSSPLL, 20 VSS, 21 VDDD, 22 XTAL_IN, 23 VSS, 24 XTAL_OUT, 25 VDDD, 26 VSS, 27 VDDLCD, 28 LDATA23, 29 LDATA22, 30 LDATA21, 31 LDATA20, 32 VDDD, 33 VSS, 34 VDDLCD, 35 LDATA17, 36 GPIO0, 37 GPIO1, 38 GPIO2, 39 GPIO3, 40 VDDD, 41 VSS, 42 VDDLCD, 43 LFRAME, 44 LLINE, 45 LSHIFT, 46 VDDD, 47 VSS, 48 VDDLCD, 49 LDEN, 50 TE, 51 PWM, 52 GAMAS0, 53 GAMAS1, 54 VDDLCD, 55 VSS, 56 VDDD, 57 VSS, 58 VDDLCD, 59 LDATA16, 60 LDATA15, 61 LDATA14, 62 LDATA13, 63 LDATA12, 64 VDDD, 65 VSS, 66 VDDLCD, 67 LDATA11, 68 LDATA10, 69 LDATA9, 70 LDATA8, 71 LDATA7, 72 LDATA6, 73 VDDD, 74 VSS, 75 VDDLCD, 76 LDATA5, 77 LDATA4, 78 LDATA3, 79 LDATA2, 80 LDATA1, 81 LDATA0, 82 VDDD, 83 VSS, 84 VDDLCD, 85 LDATA19, 86 LDATA18, 87 D19, 88 D18, 89 D23, 90 D22, 91 D21, 92 D20, 93 VDDD, 94 VSS, 95 VDDIO, 96 VSS, 97 VDDIO, 98 D17, 99 D16, 100 VDDIO, 101 VSS, 102 VDDD, 103 D15, 104 D14, 105 D13, 106 D12, 107 D11, 108 VDDIO, 109 VSS, 110 VDDD, 111 D10, 112 D9, 113 D8, 114 D7, 115 D6, 116 D5, 117 VDDIO, 118 VSS, 119 VDDD, 120 ~{RM}/~{WR}, 121 E/~{RD}, 122 ~{DC}, 123 ~{CS}, 124 VDDIO, 125 VSS, 126 VDDD, 127 ~{RESET}, 128 CONF

## ST1S06
designator U
The ST1S06xx is a step down DC-DC converter  optimized for powering low-voltage digital core in  HDD applications and, generally, to replace the  high current linear solution when the power  dissipation may cause an high heating of the  application environment. It provides up to 1.5 A  over an input voltage range of 2.7 V to 6 V. An high  switching frequency (1.5 MHz) allows the use of  tiny surface-mount components: as well as the  resistor divider to set the output voltage value,  only an inductor and two capacitors are required
pins: 1 FB (power), 2 GND (power), 4 VIN_SW (power), 5 VIN_A (power), 6 INH_N (power), 7 GND_PAD (power), SW 3 (power)

## ST178
designator U?
ST178
footprint ST178
pins: A, C, E, K

## ST7920-12864
designator LCD?
footprint SIP-20
pins: 1 VSS, 2 VDD, 3 VO, 4 RS/CS, 5 R/~{W}/DS, 6 E/CLK, 7 DB0, 8 DB1, 9 DB2, 10 DB3, 11 DB4, 12 DB5, 13 DB6, 14 DB7, 15 PSB, 16 NC, 17 ~{RST}, 18 NC, 19 BL+, 20 BL-

## STC15W201S_SOP8
designator U?
footprint SOP-8
pins: 1 P5.4/RST/MCLKO/CMP-, 2 Vcc, 3 P5.5/CMP+, 4 Gnd, 5 P3.0/RxD/~{INT4}/T2CLKO, 6 P3.1/TxD/T2, 7 P3.2/INT0, 8 P3.3/INT1

## STM8L051F
designator U?
footprint TSSOP-20
pins: 1 PC5(HS), 2 PC6(HS), 3 PA0(HS)/SWIM , 4 PA1(HS)/NRST, 5 PA2(HS), 6 PA3(HS), 7 VSS, 8 VDD, 9 PD0(HS), 10 PB0(HS), 11 PB1(HS), 12 PB2(HS), 13 PB3(HS), 14 PB4(HS), 15 PB5/SCK(HS), 16 PB6/MOSI(HS), 17 PB7/MISO(HS), 18 PC0/SDA, 19 PC1/SCL, 20 PC4(HS)

## STM8L101F
designator U?
footprint TSSOP-20
pins: 1 PC3(HS), 2 PC4(HS), 3 PA0(HS)/SWIM , 4 PA1(HS)/NRST, 5 PA2(HS), 6 PA3(HS), 7 VSS, 8 VDD, 9 PD0(HS), 10 PB0(HS), 11 PB1(HS), 12 PB2(HS), 13 PB3(HS), 14 PB4(HS), 15 PB5(HS), 16 PB6(HS) (power), 17 PB7(HS) (power), 18 PC0/SDA, 19 PC1/SCL, 20 PC2(HS)

## STM8L151K
designator U?
footprint LQFP-32
pins: 1 PA1/RST, 2 PA2/OSC_IN, 3 PA3/OSC_OUT, 4 PA4/ADC1_IN2, 5 PA5/ADC1_IN1, 6 PA6/ADC1_IN0, 7 VSS, 8 VDD, 9 PD0/ADC1_IN22/TIM3_CH2, 10 PD1/ADC1_IN21/TIM1_CH3N, 11 PD2/ADC1_IN20/TIM1_CH1, 12 PD3/ADC1_IN19, 13 PB0/ADC1_IN18/TIM2_CH1, 14 PB1/ADC1_IN17/TIM3_CH1, 15 PB2/ADC1_IN16/TIM2_CH2, 16 PB3/ADC1_IN15/TIM1_CH2N, 17 PB4/ADC1_IN14/SPI1_NSS, 18 PB5/ADC1_IN13/SPI1_SCK, 19 PB6/ADC1_IN12/SPI1_MOSI, 20 PB7/ADC1_IN11/SPI1_MISO, 21 PD4/ADC1_IN10/TIM1_CH2, 22 PD5/ADC1_IN9/TIM1_CH3, 23 PD6/ADC1_IN8/RTC_CALIB, 24 PD7/ADC1_IN7/TIM1_CH1N, 25 PC0/I2C1_SDA, 26 PC1/I2C1_SCL, 27 PC2/USART1_RX, 28 PC3/USART1_TX, 29 PC4/ADC1_IN4, 30 PC5/OSC32_IN, 31 PC6/OSC32_OUT, 32 PA0/SWIM/BEEP

## STM8L152C
designator U?
footprint LQFP-48
pins: 1 PA0/SWIM/BEEP, 2 PA1/RST, 3 PA2, 4 PA3, 5 PA4, 6 PA5, 7 PA6, 8 PA7, 9 VSS1/VSSA/VREF-, 10 VDD1, 11 VDDA, 12 VREF+, 13 VLCD, 14 PE0, 15 PE1, 16 PE2, 17 PE3, 18 PE4, 19 PE5, 20 PD0, 21 PD1, 22 PD2, 23 PD3, 24 PB0, 25 PB1, 26 PB2, 27 PB3, 28 PB4/NSS, 29 PB5/SCK, 30 PB6/MOSI, 31 PB7/MISO, 32 PF0, 33 PD4, 34 PD5, 35 PD6, 36 PD7, 37 PC0/SDA, 38 PC1/SCL, 39 VDD2, 40 VSS2, 41 PC2/RX, 42 PC3/TX, 43 PC4, 44 PC5, 45 PC6, 46 PC7, 47 PE6, 48 PE7

## STM8S003F3U6
designator U?
footprint UFQFPN-20
pins: 1 NRST, 2 PA1/OSCI, 3 PA2/OSCO, 4 GND, 5 VCAP, 6 VCC, 7 PA3(HS)/NSS, 8 PB5/SDA, 9 PB4/SCL, 10 PC3(HS), 11 PC4(HS)/CCO, 12 PC5(HS)/SCK, 13 PC6(HS)/MOSI, 14 PC7(HS)/MISO, 15 PD1(HS)/SWIM, 16 PD2(HS), 17 PD3(HS), 18 PD4(HS), 19 PD5(HS)/TXD, 20 PD6(HS)/RXD

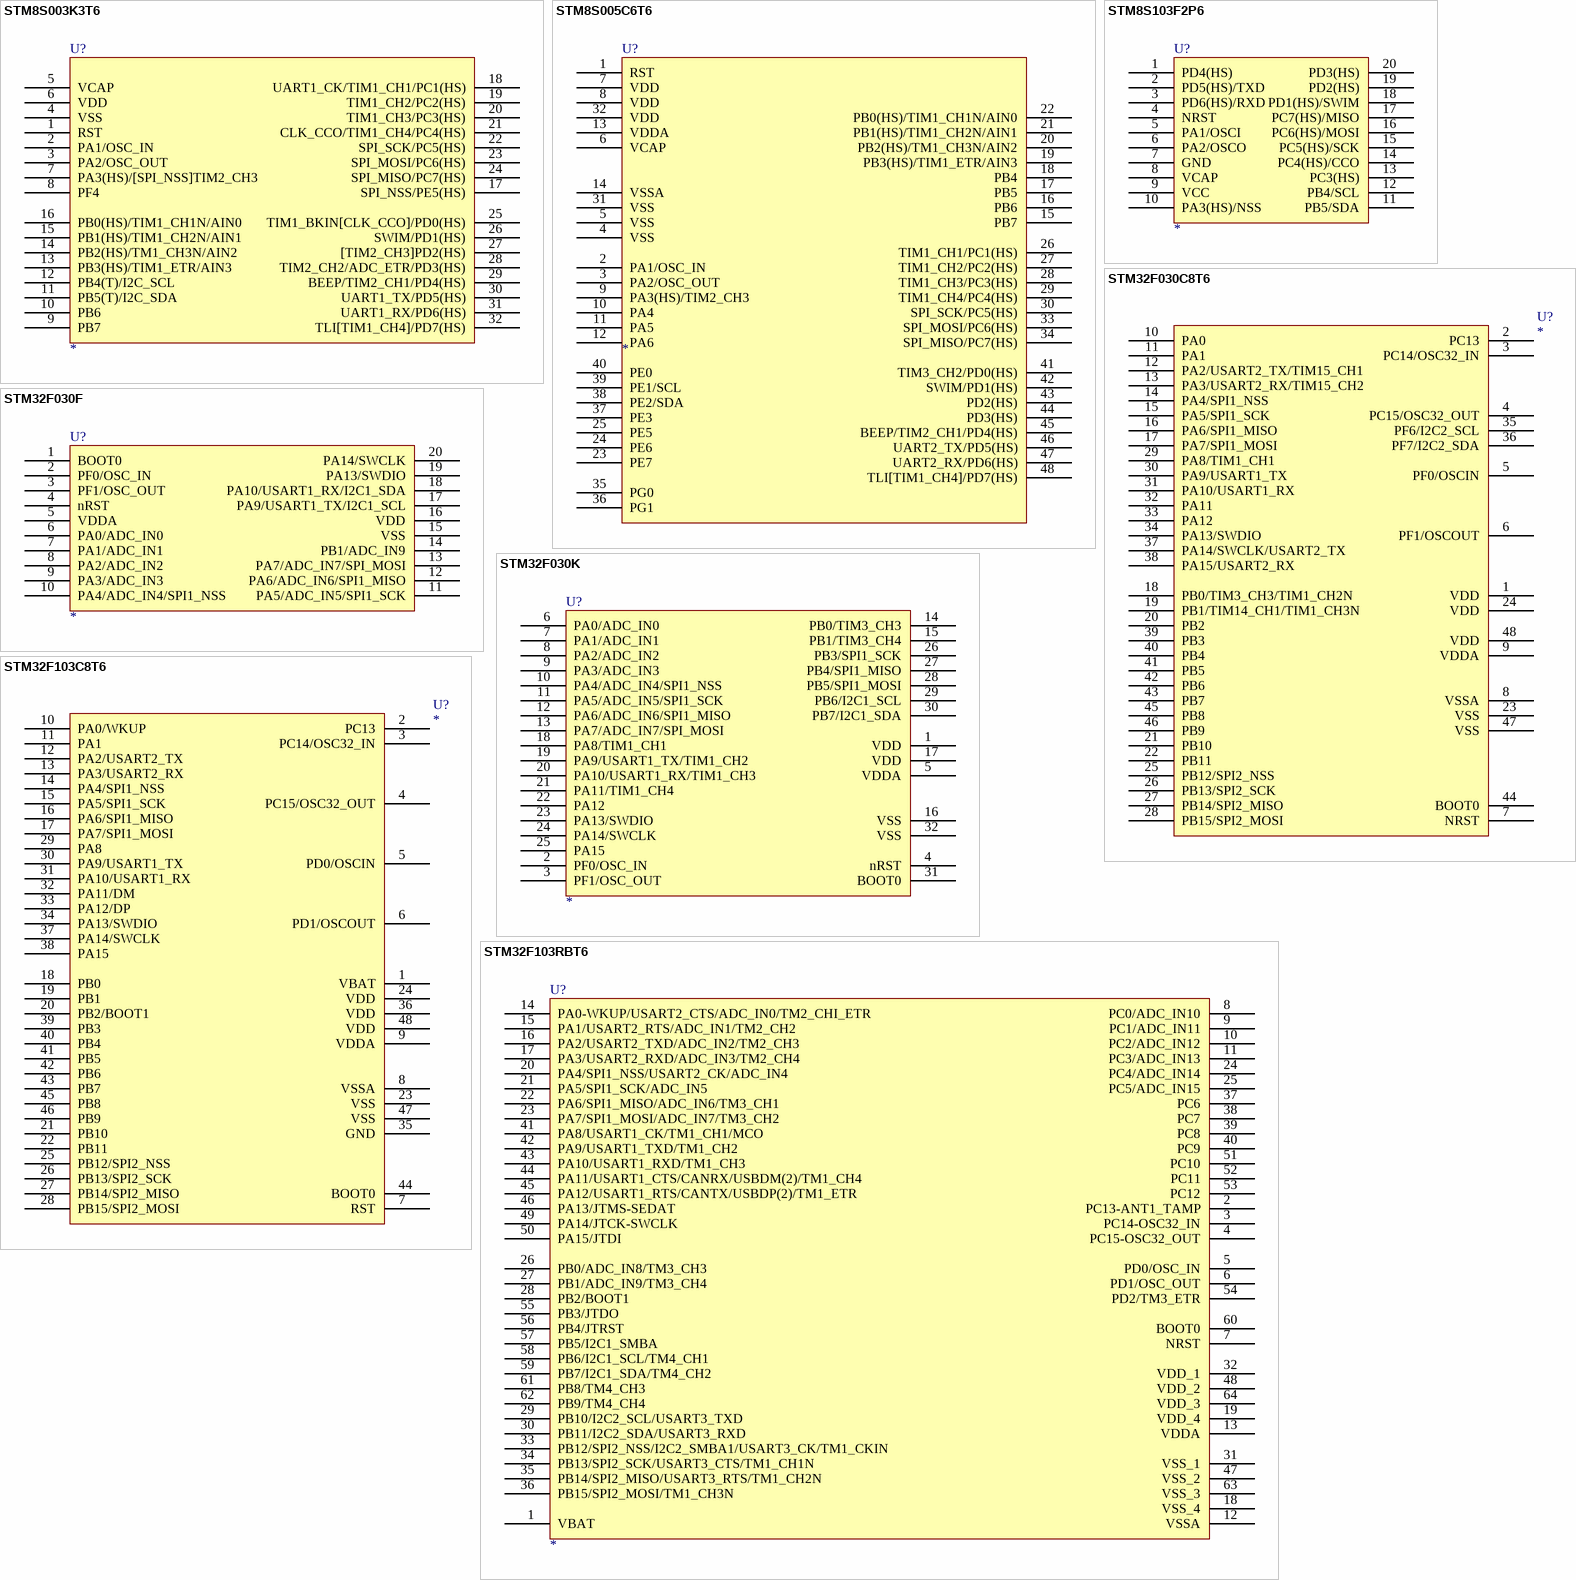
[diagram p19: symbols STM8S003K3T6 to STM32F103RBT6]

## STM8S003K3T6
designator U?
footprint LQFP-32
pins: 1 RST, 2 PA1/OSC_IN, 3 PA2/OSC_OUT, 4 VSS, 5 VCAP, 6 VDD, 7 PA3(HS)/[SPI_NSS]TIM2_CH3, 8 PF4, 9 PB7, 10 PB6, 11 PB5(T)/I2C_SDA, 12 PB4(T)/I2C_SCL, 13 PB3(HS)/TIM1_ETR/AIN3, 14 PB2(HS)/TM1_CH3N/AIN2, 15 PB1(HS)/TIM1_CH2N/AIN1, 16 PB0(HS)/TIM1_CH1N/AIN0, 17 SPI_NSS/PE5(HS), 18 UART1_CK/TIM1_CH1/PC1(HS), 19 TIM1_CH2/PC2(HS), 20 TIM1_CH3/PC3(HS), 21 CLK_CCO/TIM1_CH4/PC4(HS), 22 SPI_SCK/PC5(HS), 23 SPI_MOSI/PC6(HS), 24 SPI_MISO/PC7(HS), 25 TIM1_BKIN[CLK_CCO]/PD0(HS), 26 SWIM/PD1(HS), 27 [TIM2_CH3]PD2(HS), 28 TIM2_CH2/ADC_ETR/PD3(HS), 29 BEEP/TIM2_CH1/PD4(HS), 30 UART1_TX/PD5(HS), 31 UART1_RX/PD6(HS), 32 TLI[TIM1_CH4]/PD7(HS)

## STM8S005C6T6
designator U?
footprint LQFP-48
pins: 1 RST, 2 PA1/OSC_IN, 3 PA2/OSC_OUT, 4 VSS, 5 VSS, 6 VCAP, 7 VDD, 8 VDD, 9 PA3(HS)/TIM2_CH3, 10 PA4, 11 PA5, 12 PA6, 13 VDDA, 14 VSSA, 15 PB7, 16 PB6, 17 PB5, 18 PB4, 19 PB3(HS)/TIM1_ETR/AIN3, 20 PB2(HS)/TM1_CH3N/AIN2, 21 PB1(HS)/TIM1_CH2N/AIN1, 22 PB0(HS)/TIM1_CH1N/AIN0, 23 PE7, 24 PE6, 25 PE5, 26 TIM1_CH1/PC1(HS), 27 TIM1_CH2/PC2(HS), 28 TIM1_CH3/PC3(HS), 29 TIM1_CH4/PC4(HS), 30 SPI_SCK/PC5(HS), 31 VSS, 32 VDD, 33 SPI_MOSI/PC6(HS), 34 SPI_MISO/PC7(HS), 35 PG0, 36 PG1, 37 PE3, 38 PE2/SDA, 39 PE1/SCL, 40 PE0, 41 TIM3_CH2/PD0(HS), 42 SWIM/PD1(HS), 43 PD2(HS), 44 PD3(HS), 45 BEEP/TIM2_CH1/PD4(HS), 46 UART2_TX/PD5(HS), 47 UART2_RX/PD6(HS), 48 TLI[TIM1_CH4]/PD7(HS)

## STM8S103F2P6
designator U?
footprint TSSOP-20
pins: 1 PD4(HS), 2 PD5(HS)/TXD, 3 PD6(HS)/RXD, 4 NRST, 5 PA1/OSCI, 6 PA2/OSCO, 7 GND, 8 VCAP, 9 VCC, 10 PA3(HS)/NSS, 11 PB5/SDA, 12 PB4/SCL, 13 PC3(HS), 14 PC4(HS)/CCO, 15 PC5(HS)/SCK, 16 PC6(HS)/MOSI, 17 PC7(HS)/MISO, 18 PD1(HS)/SWIM, 19 PD2(HS), 20 PD3(HS)

## STM32F030C8T6
designator U?
MCU
footprint LQFP-48
pins: 1 VDD, 2 PC13, 3 PC14/OSC32_IN, 4 PC15/OSC32_OUT, 5 PF0/OSCIN, 6 PF1/OSCOUT, 7 NRST, 8 VSSA, 9 VDDA, 10 PA0, 11 PA1, 12 PA2/USART2_TX/TIM15_CH1, 13 PA3/USART2_RX/TIM15_CH2, 14 PA4/SPI1_NSS, 15 PA5/SPI1_SCK, 16 PA6/SPI1_MISO, 17 PA7/SPI1_MOSI, 18 PB0/TIM3_CH3/TIM1_CH2N, 19 PB1/TIM14_CH1/TIM1_CH3N, 20 PB2, 21 PB10, 22 PB11, 23 VSS, 24 VDD, 25 PB12/SPI2_NSS, 26 PB13/SPI2_SCK, 27 PB14/SPI2_MISO, 28 PB15/SPI2_MOSI, 29 PA8/TIM1_CH1, 30 PA9/USART1_TX, 31 PA10/USART1_RX, 32 PA11, 33 PA12, 34 PA13/SWDIO, 35 PF6/I2C2_SCL, 36 PF7/I2C2_SDA, 37 PA14/SWCLK/USART2_TX, 38 PA15/USART2_RX, 39 PB3, 40 PB4, 41 PB5, 42 PB6, 43 PB7, 44 BOOT0, 45 PB8, 46 PB9, 47 VSS, 48 VDD

## STM32F030F
designator U?
footprint TSSOP-20
pins: 1 BOOT0, 2 PF0/OSC_IN, 3 PF1/OSC_OUT, 4 nRST, 5 VDDA, 6 PA0/ADC_IN0, 7 PA1/ADC_IN1, 8 PA2/ADC_IN2, 9 PA3/ADC_IN3, 10 PA4/ADC_IN4/SPI1_NSS, 11 PA5/ADC_IN5/SPI1_SCK, 12 PA6/ADC_IN6/SPI1_MISO, 13 PA7/ADC_IN7/SPI_MOSI, 14 PB1/ADC_IN9, 15 VSS, 16 VDD (power), 17 PA9/USART1_TX/I2C1_SCL (power), 18 PA10/USART1_RX/I2C1_SDA, 19 PA13/SWDIO, 20 PA14/SWCLK

## STM32F030K
designator U?
footprint LQFP-32
pins: 1 VDD, 2 PF0/OSC_IN, 3 PF1/OSC_OUT, 4 nRST, 5 VDDA, 6 PA0/ADC_IN0, 7 PA1/ADC_IN1, 8 PA2/ADC_IN2, 9 PA3/ADC_IN3, 10 PA4/ADC_IN4/SPI1_NSS, 11 PA5/ADC_IN5/SPI1_SCK, 12 PA6/ADC_IN6/SPI1_MISO, 13 PA7/ADC_IN7/SPI_MOSI, 14 PB0/TIM3_CH3, 15 PB1/TIM3_CH4, 16 VSS, 17 VDD (power), 18 PA8/TIM1_CH1, 19 PA9/USART1_TX/TIM1_CH2 (power), 20 PA10/USART1_RX/TIM1_CH3, 21 PA11/TIM1_CH4, 22 PA12, 23 PA13/SWDIO, 24 PA14/SWCLK, 25 PA15, 26 PB3/SPI1_SCK, 27 PB4/SPI1_MISO, 28 PB5/SPI1_MOSI, 29 PB6/I2C1_SCL, 30 PB7/I2C1_SDA, 31 BOOT0, 32 VSS

## STM32F103C8T6
designator U?
MCU
footprint LQFP-48
pins: 1 VBAT, 2 PC13, 3 PC14/OSC32_IN, 4 PC15/OSC32_OUT, 5 PD0/OSCIN, 6 PD1/OSCOUT, 7 RST, 8 VSSA, 9 VDDA, 10 PA0/WKUP, 11 PA1, 12 PA2/USART2_TX, 13 PA3/USART2_RX, 14 PA4/SPI1_NSS, 15 PA5/SPI1_SCK, 16 PA6/SPI1_MISO, 17 PA7/SPI1_MOSI, 18 PB0, 19 PB1, 20 PB2/BOOT1, 21 PB10, 22 PB11, 23 VSS, 24 VDD, 25 PB12/SPI2_NSS, 26 PB13/SPI2_SCK, 27 PB14/SPI2_MISO, 28 PB15/SPI2_MOSI, 29 PA8, 30 PA9/USART1_TX, 31 PA10/USART1_RX, 32 PA11/DM, 33 PA12/DP, 34 PA13/SWDIO, 35 GND, 36 VDD, 37 PA14/SWCLK, 38 PA15, 39 PB3, 40 PB4, 41 PB5, 42 PB6, 43 PB7, 44 BOOT0, 45 PB8, 46 PB9, 47 VSS, 48 VDD

## STM32F103RBT6
designator U?
MCU
footprint LQFP-64
pins: 1 VBAT, 2 PC13-ANT1_TAMP, 3 PC14-OSC32_IN, 4 PC15-OSC32_OUT, 5 PD0/OSC_IN, 6 PD1/OSC_OUT, 7 NRST, 8 PC0/ADC_IN10, 9 PC1/ADC_IN11, 10 PC2/ADC_IN12, 11 PC3/ADC_IN13, 12 VSSA, 13 VDDA, 14 PA0-WKUP/USART2_CTS/ADC_IN0/TM2_CHI_ETR, 15 PA1/USART2_RTS/ADC_IN1/TM2_CH2, 16 PA2/USART2_TXD/ADC_IN2/TM2_CH3, 17 PA3/USART2_RXD/ADC_IN3/TM2_CH4, 18 VSS_4, 19 VDD_4, 20 PA4/SPI1_NSS/USART2_CK/ADC_IN4, 21 PA5/SPI1_SCK/ADC_IN5, 22 PA6/SPI1_MISO/ADC_IN6/TM3_CH1, 23 PA7/SPI1_MOSI/ADC_IN7/TM3_CH2, 24 PC4/ADC_IN14, 25 PC5/ADC_IN15, 26 PB0/ADC_IN8/TM3_CH3, 27 PB1/ADC_IN9/TM3_CH4, 28 PB2/BOOT1, 29 PB10/I2C2_SCL/USART3_TXD, 30 PB11/I2C2_SDA/USART3_RXD, 31 VSS_1, 32 VDD_1, 33 PB12/SPI2_NSS/I2C2_SMBA1/USART3_CK/TM1_CKIN, 34 PB13/SPI2_SCK/USART3_CTS/TM1_CH1N, 35 PB14/SPI2_MISO/USART3_RTS/TM1_CH2N, 36 PB15/SPI2_MOSI/TM1_CH3N, 37 PC6, 38 PC7, 39 PC8, 40 PC9, 41 PA8/USART1_CK/TM1_CH1/MCO, 42 PA9/USART1_TXD/TM1_CH2, 43 PA10/USART1_RXD/TM1_CH3, 44 PA11/USART1_CTS/CANRX/USBDM(2)/TM1_CH4, 45 PA12/USART1_RTS/CANTX/USBDP(2)/TM1_ETR, 46 PA13/JTMS-SEDAT, 47 VSS_2, 48 VDD_2, 49 PA14/JTCK-SWCLK, 50 PA15/JTDI, 51 PC10, 52 PC11, 53 PC12, 54 PD2/TM3_ETR, 55 PB3/JTDO, 56 PB4/JTRST, 57 PB5/I2C1_SMBA, 58 PB6/I2C1_SCL/TM4_CH1, 59 PB7/I2C1_SDA/TM4_CH2, 60 BOOT0, 61 PB8/TM4_CH3, 62 PB9/TM4_CH4, 63 VSS_3, 64 VDD_3

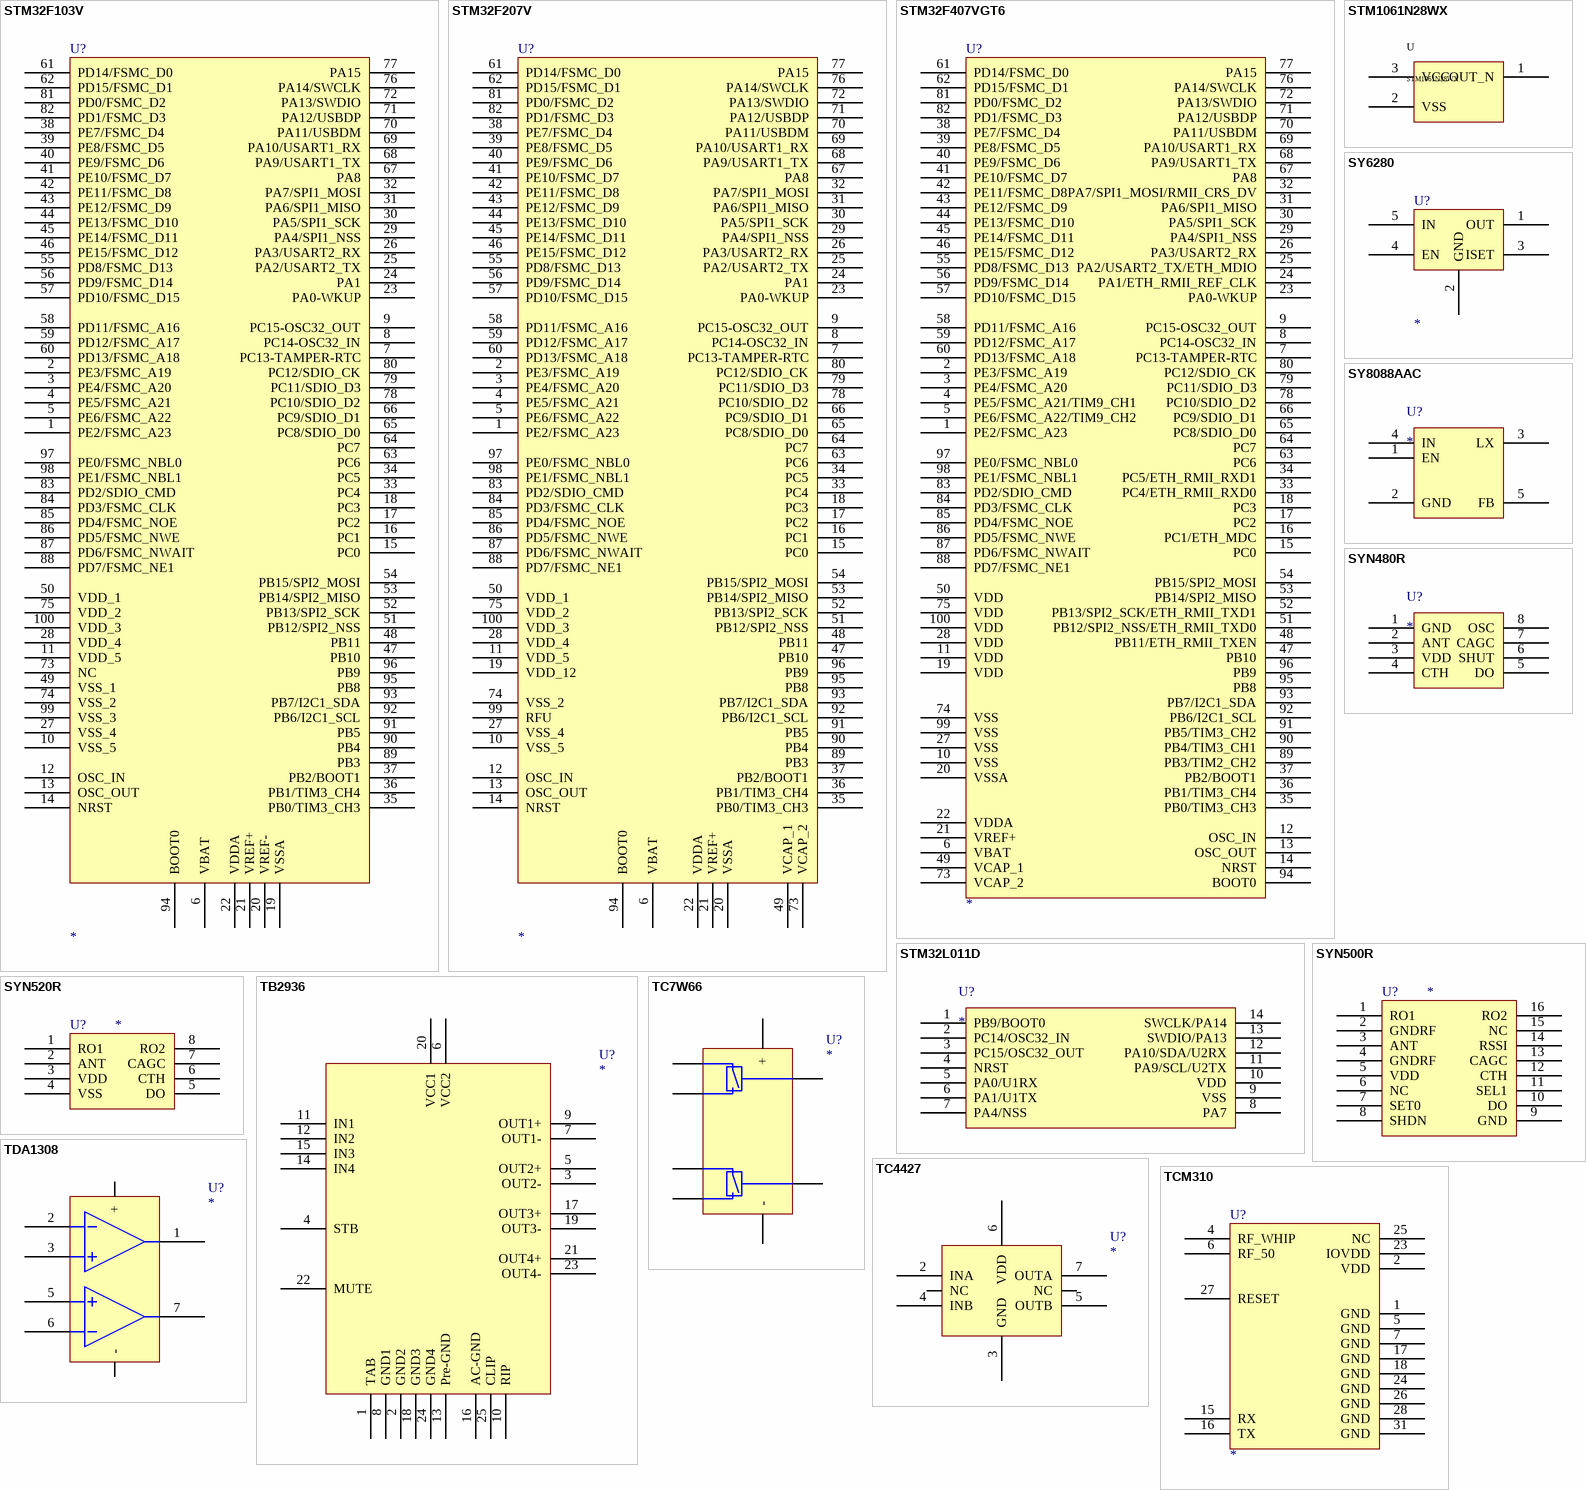
[diagram p20: symbols STM32F103V to TDA1308]

## STM32F103V
designator U?
footprint LQFP-100
pins: 1 PE2/FSMC_A23, 2 PE3/FSMC_A19, 3 PE4/FSMC_A20, 4 PE5/FSMC_A21, 5 PE6/FSMC_A22, 6 VBAT, 7 PC13-TAMPER-RTC, 8 PC14-OSC32_IN, 9 PC15-OSC32_OUT, 10 VSS_5, 11 VDD_5, 12 OSC_IN, 13 OSC_OUT, 14 NRST, 15 PC0, 16 PC1, 17 PC2, 18 PC3, 19 VSSA, 20 VREF-, 21 VREF+, 22 VDDA, 23 PA0-WKUP, 24 PA1, 25 PA2/USART2_TX, 26 PA3/USART2_RX, 27 VSS_4, 28 VDD_4, 29 PA4/SPI1_NSS, 30 PA5/SPI1_SCK, 31 PA6/SPI1_MISO, 32 PA7/SPI1_MOSI, 33 PC4, 34 PC5, 35 PB0/TIM3_CH3, 36 PB1/TIM3_CH4, 37 PB2/BOOT1, 38 PE7/FSMC_D4, 39 PE8/FSMC_D5, 40 PE9/FSMC_D6, 41 PE10/FSMC_D7, 42 PE11/FSMC_D8, 43 PE12/FSMC_D9, 44 PE13/FSMC_D10, 45 PE14/FSMC_D11, 46 PE15/FSMC_D12, 47 PB10, 48 PB11, 49 VSS_1, 50 VDD_1, 51 PB12/SPI2_NSS, 52 PB13/SPI2_SCK, 53 PB14/SPI2_MISO, 54 PB15/SPI2_MOSI, 55 PD8/FSMC_D13, 56 PD9/FSMC_D14, 57 PD10/FSMC_D15, 58 PD11/FSMC_A16, 59 PD12/FSMC_A17, 60 PD13/FSMC_A18, 61 PD14/FSMC_D0, 62 PD15/FSMC_D1, 63 PC6, 64 PC7, 65 PC8/SDIO_D0, 66 PC9/SDIO_D1, 67 PA8, 68 PA9/USART1_TX, 69 PA10/USART1_RX, 70 PA11/USBDM, 71 PA12/USBDP, 72 PA13/SWDIO, 73 NC, 74 VSS_2, 75 VDD_2, 76 PA14/SWCLK, 77 PA15, 78 PC10/SDIO_D2, 79 PC11/SDIO_D3, 80 PC12/SDIO_CK, 81 PD0/FSMC_D2, 82 PD1/FSMC_D3, 83 PD2/SDIO_CMD, 84 PD3/FSMC_CLK, 85 PD4/FSMC_NOE, 86 PD5/FSMC_NWE, 87 PD6/FSMC_NWAIT, 88 PD7/FSMC_NE1, 89 PB3, 90 PB4, 91 PB5, 92 PB6/I2C1_SCL, 93 PB7/I2C1_SDA, 94 BOOT0, 95 PB8, 96 PB9, 97 PE0/FSMC_NBL0, 98 PE1/FSMC_NBL1, 99 VSS_3, 100 VDD_3

## STM32F207V
designator U?
footprint LQFP-100
pins: 1 PE2/FSMC_A23, 2 PE3/FSMC_A19, 3 PE4/FSMC_A20, 4 PE5/FSMC_A21, 5 PE6/FSMC_A22, 6 VBAT, 7 PC13-TAMPER-RTC, 8 PC14-OSC32_IN, 9 PC15-OSC32_OUT, 10 VSS_5, 11 VDD_5, 12 OSC_IN, 13 OSC_OUT, 14 NRST, 15 PC0, 16 PC1, 17 PC2, 18 PC3, 19 VDD_12, 20 VSSA, 21 VREF+, 22 VDDA, 23 PA0-WKUP, 24 PA1, 25 PA2/USART2_TX, 26 PA3/USART2_RX, 27 VSS_4, 28 VDD_4, 29 PA4/SPI1_NSS, 30 PA5/SPI1_SCK, 31 PA6/SPI1_MISO, 32 PA7/SPI1_MOSI, 33 PC4, 34 PC5, 35 PB0/TIM3_CH3, 36 PB1/TIM3_CH4, 37 PB2/BOOT1, 38 PE7/FSMC_D4, 39 PE8/FSMC_D5, 40 PE9/FSMC_D6, 41 PE10/FSMC_D7, 42 PE11/FSMC_D8, 43 PE12/FSMC_D9, 44 PE13/FSMC_D10, 45 PE14/FSMC_D11, 46 PE15/FSMC_D12, 47 PB10, 48 PB11, 49 VCAP_1, 50 VDD_1, 51 PB12/SPI2_NSS, 52 PB13/SPI2_SCK, 53 PB14/SPI2_MISO, 54 PB15/SPI2_MOSI, 55 PD8/FSMC_D13, 56 PD9/FSMC_D14, 57 PD10/FSMC_D15, 58 PD11/FSMC_A16, 59 PD12/FSMC_A17, 60 PD13/FSMC_A18, 61 PD14/FSMC_D0, 62 PD15/FSMC_D1, 63 PC6, 64 PC7, 65 PC8/SDIO_D0, 66 PC9/SDIO_D1, 67 PA8, 68 PA9/USART1_TX, 69 PA10/USART1_RX, 70 PA11/USBDM, 71 PA12/USBDP, 72 PA13/SWDIO, 73 VCAP_2, 74 VSS_2, 75 VDD_2, 76 PA14/SWCLK, 77 PA15, 78 PC10/SDIO_D2, 79 PC11/SDIO_D3, 80 PC12/SDIO_CK, 81 PD0/FSMC_D2, 82 PD1/FSMC_D3, 83 PD2/SDIO_CMD, 84 PD3/FSMC_CLK, 85 PD4/FSMC_NOE, 86 PD5/FSMC_NWE, 87 PD6/FSMC_NWAIT, 88 PD7/FSMC_NE1, 89 PB3, 90 PB4, 91 PB5, 92 PB6/I2C1_SCL, 93 PB7/I2C1_SDA, 94 BOOT0, 95 PB8, 96 PB9, 97 PE0/FSMC_NBL0, 98 PE1/FSMC_NBL1, 99 RFU, 100 VDD_3

## STM32F407VGT6
designator U?
footprint LQFP-100
pins: 1 PE2/FSMC_A23, 2 PE3/FSMC_A19, 3 PE4/FSMC_A20, 4 PE5/FSMC_A21/TIM9_CH1, 5 PE6/FSMC_A22/TIM9_CH2, 6 VBAT, 7 PC13-TAMPER-RTC, 8 PC14-OSC32_IN, 9 PC15-OSC32_OUT, 10 VSS, 11 VDD, 12 OSC_IN, 13 OSC_OUT, 14 NRST, 15 PC0, 16 PC1/ETH_MDC, 17 PC2, 18 PC3, 19 VDD, 20 VSSA, 21 VREF+, 22 VDDA, 23 PA0-WKUP, 24 PA1/ETH_RMII_REF_CLK, 25 PA2/USART2_TX/ETH_MDIO, 26 PA3/USART2_RX, 27 VSS, 28 VDD, 29 PA4/SPI1_NSS, 30 PA5/SPI1_SCK, 31 PA6/SPI1_MISO, 32 PA7/SPI1_MOSI/RMII_CRS_DV, 33 PC4/ETH_RMII_RXD0, 34 PC5/ETH_RMII_RXD1, 35 PB0/TIM3_CH3, 36 PB1/TIM3_CH4, 37 PB2/BOOT1, 38 PE7/FSMC_D4, 39 PE8/FSMC_D5, 40 PE9/FSMC_D6, 41 PE10/FSMC_D7, 42 PE11/FSMC_D8, 43 PE12/FSMC_D9, 44 PE13/FSMC_D10, 45 PE14/FSMC_D11, 46 PE15/FSMC_D12, 47 PB10, 48 PB11/ETH_RMII_TXEN, 49 VCAP_1, 50 VDD, 51 PB12/SPI2_NSS/ETH_RMII_TXD0, 52 PB13/SPI2_SCK/ETH_RMII_TXD1, 53 PB14/SPI2_MISO, 54 PB15/SPI2_MOSI, 55 PD8/FSMC_D13, 56 PD9/FSMC_D14, 57 PD10/FSMC_D15, 58 PD11/FSMC_A16, 59 PD12/FSMC_A17, 60 PD13/FSMC_A18, 61 PD14/FSMC_D0, 62 PD15/FSMC_D1, 63 PC6, 64 PC7, 65 PC8/SDIO_D0, 66 PC9/SDIO_D1, 67 PA8, 68 PA9/USART1_TX, 69 PA10/USART1_RX, 70 PA11/USBDM, 71 PA12/USBDP, 72 PA13/SWDIO, 73 VCAP_2, 74 VSS, 75 VDD, 76 PA14/SWCLK, 77 PA15, 78 PC10/SDIO_D2, 79 PC11/SDIO_D3, 80 PC12/SDIO_CK, 81 PD0/FSMC_D2, 82 PD1/FSMC_D3, 83 PD2/SDIO_CMD, 84 PD3/FSMC_CLK, 85 PD4/FSMC_NOE, 86 PD5/FSMC_NWE, 87 PD6/FSMC_NWAIT, 88 PD7/FSMC_NE1, 89 PB3/TIM2_CH2, 90 PB4/TIM3_CH1, 91 PB5/TIM3_CH2, 92 PB6/I2C1_SCL, 93 PB7/I2C1_SDA, 94 BOOT0, 95 PB8, 96 PB9, 97 PE0/FSMC_NBL0, 98 PE1/FSMC_NBL1, 99 VSS, 100 VDD

## STM32L011D
designator U?
Chip
footprint TSSOP-14
pins: 1 PB9/BOOT0, 2 PC14/OSC32_IN, 3 PC15/OSC32_OUT, 4 NRST, 5 PA0/U1RX, 6 PA1/U1TX, 7 PA4/NSS, 8 PA7, 9 VSS, 10 VDD, 11 PA9/SCL/U2TX, 12 PA10/SDA/U2RX, 13 SWDIO/PA13, 14 SWCLK/PA14

## STM1061N28WX
designator U
pins: 1 OUT_N (power), 2 VSS (power), 3 VCC (power)

## SY6280
designator U?
footprint SOT-23-5
pins: 1 OUT, 2 GND, 3 ISET, 4 EN, 5 IN

## SY8088AAC
designator U?
DCDC Conventor
footprint SOT-23-5
pins: 1 EN, 2 GND, 3 LX, 4 IN, 5 FB

## SYN480R
designator U?
Chip
footprint SOP-8
pins: 1 GND, 2 ANT, 3 VDD, 4 CTH, 5 DO, 6 SHUT, 7 CAGC, 8 OSC

## SYN500R
designator U?
Chip
footprint TSSOP-16
pins: 1 RO1, 2 GNDRF, 3 ANT, 4 GNDRF, 5 VDD, 6 NC, 7 SET0, 8 SHDN, 9 GND, 10 DO, 11 SEL1, 12 CTH, 13 CAGC, 14 RSSI, 15 NC, 16 RO2

## SYN520R
designator U?
Chip
footprint SOP-8
pins: 1 RO1, 2 ANT, 3 VDD, 4 VSS, 5 DO, 6 CTH, 7 CAGC, 8 RO2

## TB2936
designator U?
footprint TB2936
pins: 1 TAB, 2 GND2, 3 OUT2-, 4 STB, 5 OUT2+, 6 VCC2, 7 OUT1-, 8 GND1, 9 OUT1+, 10 RIP, 11 IN1, 12 IN2, 13 Pre-GND, 14 IN4, 15 IN3, 16 AC-GND, 17 OUT3+, 18 GND3, 19 OUT3-, 20 VCC1, 21 OUT4+, 22 MUTE, 23 OUT4-, 24 GND4, 25 CLIP

## TC7W66
designator U?
pins: 1, 2, 3, 4 -, 5, 6, 7, 8 +

## TC4427
designator U?
footprint SOP-8
pins: 1 NC, 2 INA, 3 GND, 4 INB, 5 OUTB, 6 VDD, 7 OUTA, 8 NC

## TCM310
designator U?
footprint TCM310
pins: 1 GND, 2 VDD, 4 RF_WHIP, 5 GND, 6 RF_50, 7 GND, 15 RX, 16 TX, 17 GND, 18 GND, 23 IOVDD, 24 GND, 25 NC, 26 GND, 27 RESET, 28 GND, 31 GND

## TDA1308
designator U?
footprint SOP-8
footprint SIP-8
pins: 1, 2, 3, 4 -, 5, 6, 7, 8 +

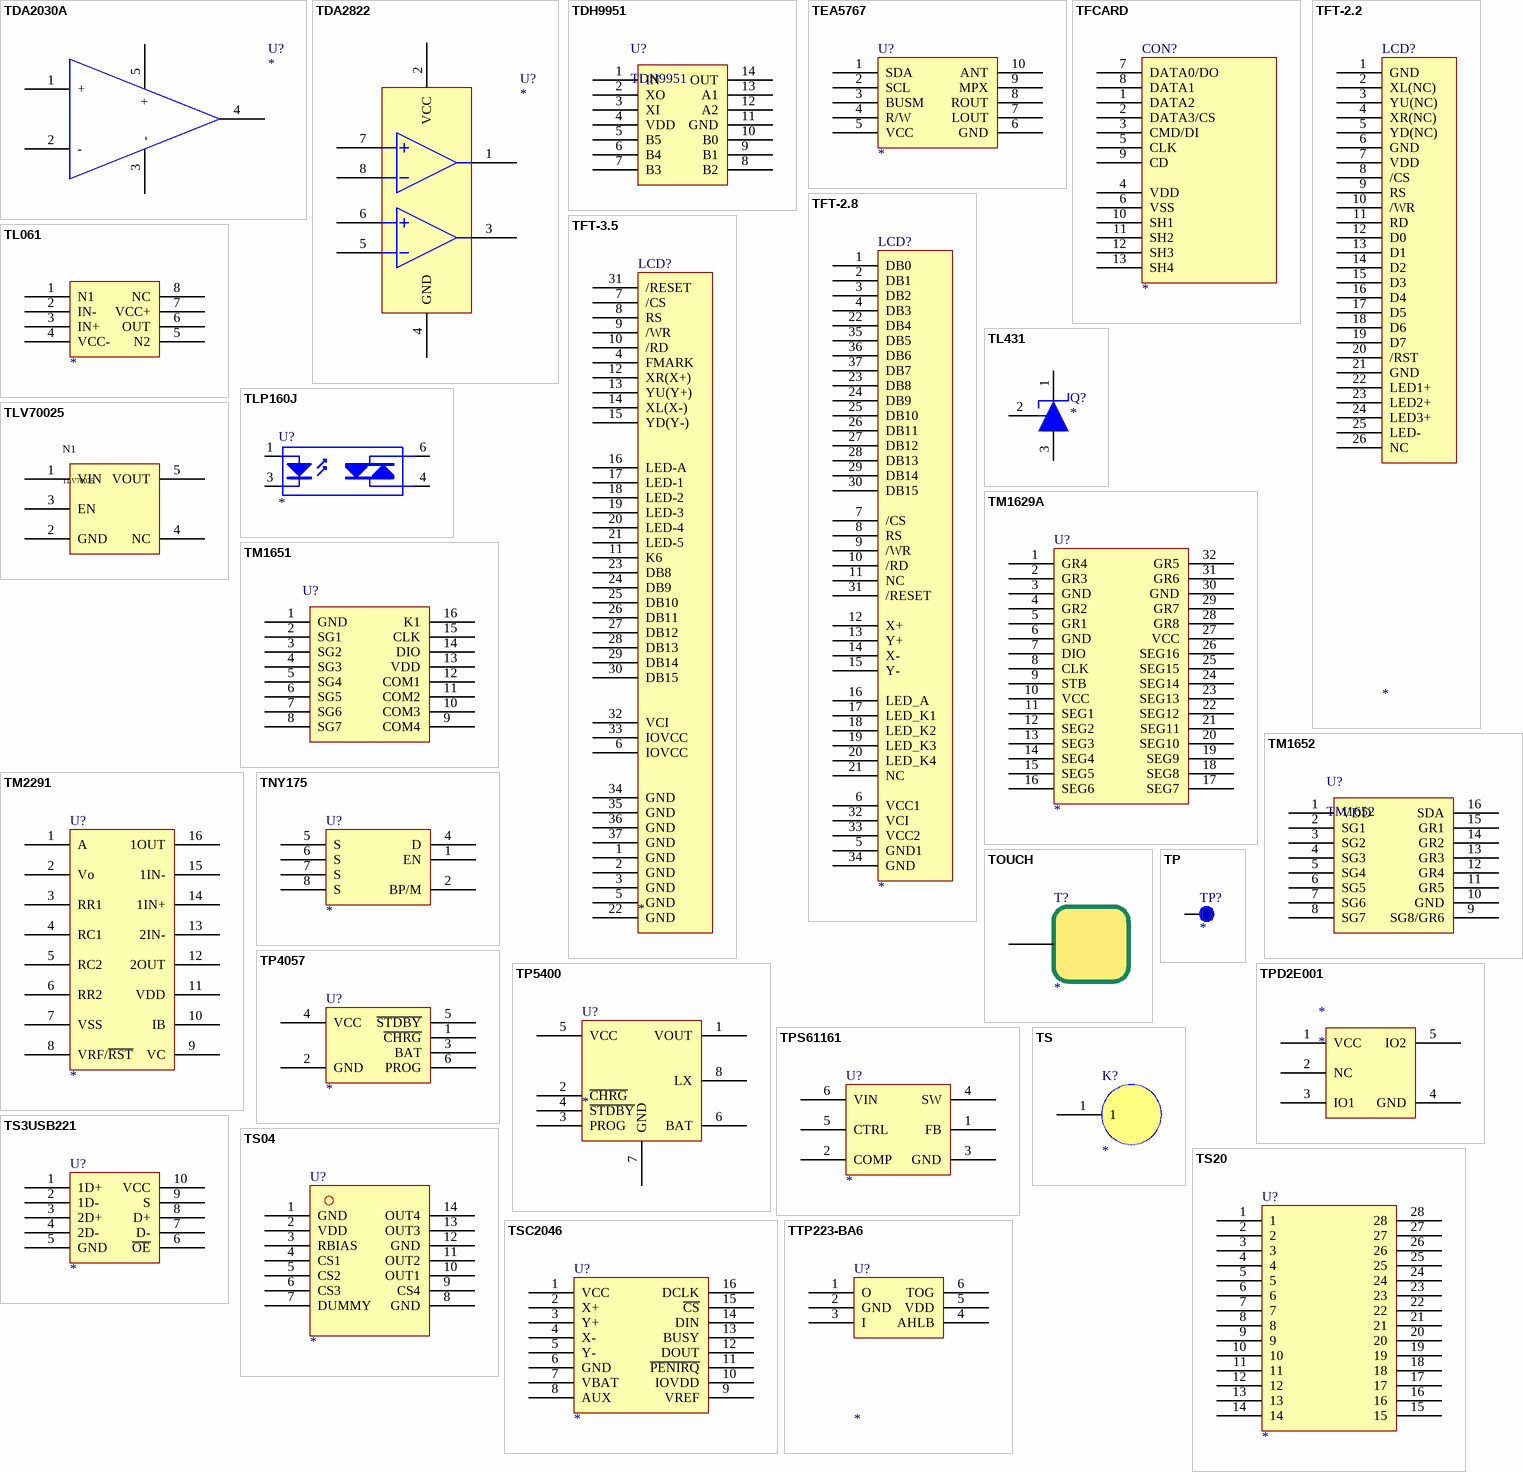
[diagram p21: symbols TDA2030A to TTP223-BA6]

## TDA2030A
designator U?
pins: 1 +, 2 -, 3 -, 4, 5 +

## TDA2822
designator U?
footprint DIP-8
pins: 1, 2 VCC, 3, 4 GND, 5, 6, 7, 8

## TDH9951
designator U?
Chip
footprint SOP-14
pins: 1 IN, 2 XO, 3 XI, 4 VDD, 5 B5, 6 B4, 7 B3, 8 B2, 9 B1, 10 B0, 11 GND, 12 A2, 13 A1, 14 OUT

## TEA5767
designator U?
footprint TEA5767A
pins: 1 SDA, 2 SCL, 3 BUSM, 4 R/W, 5 VCC, 6 GND, 7 LOUT, 8 ROUT, 9 MPX, 10 ANT

## TFCARD
designator CON?
footprint TFCARD1
pins: 1 DATA2, 2 DATA3/CS, 3 CMD/DI, 4 VDD, 5 CLK, 6 VSS, 7 DATA0/DO, 8 DATA1, 9 CD, 10 SH1, 11 SH2, 12 SH3, 13 SH4

## TFT-2.2
designator LCD?
TFT LCD Display
footprint TFT-2.2
pins: 1 GND, 2 XL(NC), 3 YU(NC), 4 XR(NC), 5 YD(NC), 6 GND, 7 VDD, 8 /CS, 9 RS, 10 /WR, 11 RD, 12 D0, 13 D1, 14 D2, 15 D3, 16 D4, 17 D5, 18 D6, 19 D7, 20 /RST, 21 GND, 22 LED1+, 23 LED2+, 24 LED3+, 25 LED-, 26 NC

## TFT-2.8
designator LCD?
TFT LCD Display
footprint TFT-2.8
pins: 1 DB0, 2 DB1, 3 DB2, 4 DB3, 5 GND1, 6 VCC1, 7 /CS, 8 RS, 9 /WR, 10 /RD, 11 NC, 12 X+, 13 Y+, 14 X-, 15 Y-, 16 LED_A, 17 LED_K1, 18 LED_K2, 19 LED_K3, 20 LED_K4, 21 NC, 22 DB4, 23 DB8, 24 DB9, 25 DB10, 26 DB11, 27 DB12, 28 DB13, 29 DB14, 30 DB15, 31 /RESET, 32 VCI, 33 VCC2, 34 GND, 35 DB5, 36 DB6, 37 DB7

## TFT-3.5
designator LCD?
TFT LCD Display
footprint TFT-3.5
pins: 1 GND, 2 GND, 3 GND, 4 FMARK, 5 GND, 6 IOVCC, 7 /CS, 8 RS, 9 /WR, 10 /RD, 11 K6, 12 XR(X+), 13 YU(Y+), 14 XL(X-), 15 YD(Y-), 16 LED-A, 17 LED-1, 18 LED-2, 19 LED-3, 20 LED-4, 21 LED-5, 22 GND, 23 DB8, 24 DB9, 25 DB10, 26 DB11, 27 DB12, 28 DB13, 29 DB14, 30 DB15, 31 /RESET, 32 VCI, 33 IOVCC, 34 GND, 35 GND, 36 GND, 37 GND

## TL061
designator ?
pins: 1 N1, 2 IN-, 3 IN+, 4 VCC-, 5 N2, 6 OUT, 7 VCC+, 8 NC

## TL431
designator Q?
footprint SOT-23
pins: 1 C, 2 REF, 3 A

## TLP160J
designator U?
TRIAC
footprint MFSOP6
pins: 1 A, 3 K, 4 A/K, 6 A/K

## TLV70025
designator N1
pins: 1 VIN, 2 GND, 3 EN, 4 NC, 5 VOUT

## TM1629A
designator U?
footprint SOP-32
pins: 1 GR4, 2 GR3, 3 GND, 4 GR2, 5 GR1, 6 GND, 7 DIO, 8 CLK, 9 STB, 10 VCC, 11 SEG1, 12 SEG2, 13 SEG3, 14 SEG4, 15 SEG5, 16 SEG6, 17 SEG7, 18 SEG8, 19 SEG9, 20 SEG10, 21 SEG11, 22 SEG12, 23 SEG13, 24 SEG14, 25 SEG15, 26 SEG16, 27 VCC, 28 GR8, 29 GR7, 30 GND, 31 GR6, 32 GR5

## TM1651
designator U?
footprint SOP-16
pins: 1 GND, 2 SG1, 3 SG2, 4 SG3, 5 SG4, 6 SG5, 7 SG6, 8 SG7, 9 COM4, 10 COM3, 11 COM2, 12 COM1, 13 VDD, 14 DIO, 15 CLK, 16 K1

## TM1652
designator U?
footprint SOP-16
pins: 1 VDD, 2 SG1, 3 SG2, 4 SG3, 5 SG4, 6 SG5, 7 SG6, 8 SG7, 9 SG8/GR6, 10 GND, 11 GR5, 12 GR4, 13 GR3, 14 GR2, 15 GR1, 16 SDA

## TM2291
designator U?
footprint SOP-16
pins: 1 A, 2 Vo, 3 RR1, 4 RC1, 5 RC2, 6 RR2, 7 VSS, 8 VRF/~{RST}, 9 VC, 10 IB, 11 VDD, 12 2OUT, 13 2IN-, 14 1IN+, 15 1IN-, 16 1OUT

## TNY175
designator U?
footprint TNY175
pins: 1 EN, 2 BP/M, 4 D, 5 S, 6 S, 7 S, 8 S

## TOUCH
designator T?
footprint TOUCH
pins: 1

## TP
designator TP?
footprint TP
footprint TP1
footprint TP2
footprint TP3
pins: 1

## TP4057
designator U?
footprint SOT-23-6
pins: 1 ~{CHRG}, 2 GND, 3 BAT, 4 VCC, 5 ~{STDBY}, 6 PROG

## TP5400
designator U?
Chip
footprint SOP-8
pins: 1 VOUT, 2 ~{CHRG}, 3 PROG, 4 ~{STDBY}, 5 VCC, 6 BAT, 7 GND, 8 LX

## TPD2E001
designator *
footprint SOT-5X3
pins: 1 VCC, 2 NC, 3 IO1, 4 GND, 5 IO2

## TPS61161
designator U?
footprint TPS61161
pins: 1 FB, 2 COMP, 3 GND, 4 SW, 5 CTRL, 6 VIN

## TS
designator K?
pins: 1

## TS3USB221
designator U?
footprint TS3USB221DRC
pins: 1 1D+, 2 1D-, 3 2D+, 4 2D-, 5 GND, 6 ~{OE}, 7 D-, 8 D+, 9 S, 10 VCC

## TS04
designator U?
footprint SOP-14
pins: 1 GND, 2 VDD, 3 RBIAS, 4 CS1, 5 CS2, 6 CS3, 7 DUMMY, 8 GND, 9 CS4, 10 OUT1, 11 OUT2, 12 GND, 13 OUT3, 14 OUT4

## TS20
designator U?
footprint TSSOP-28
pins: 1, 2, 3, 4, 5, 6, 7, 8, 9, 10, 11, 12, 13, 14, 15, 16, 17, 18, 19, 20, 21, 22, 23, 24, 25, 26, 27, 28

## TSC2046
designator U?
footprint TSSOP-16
pins: 1 VCC, 2 X+, 3 Y+, 4 X-, 5 Y-, 6 GND, 7 VBAT, 8 AUX, 9 VREF, 10 IOVDD, 11 ~{PENIRQ}, 12 DOUT, 13 BUSY, 14 DIN, 15 ~{CS}, 16 DCLK

## TTP223-BA6
designator U?
Chip
footprint SOT-23-6
pins: 1 O, 2 GND, 3 I, 4 AHLB, 5 VDD, 6 TOG

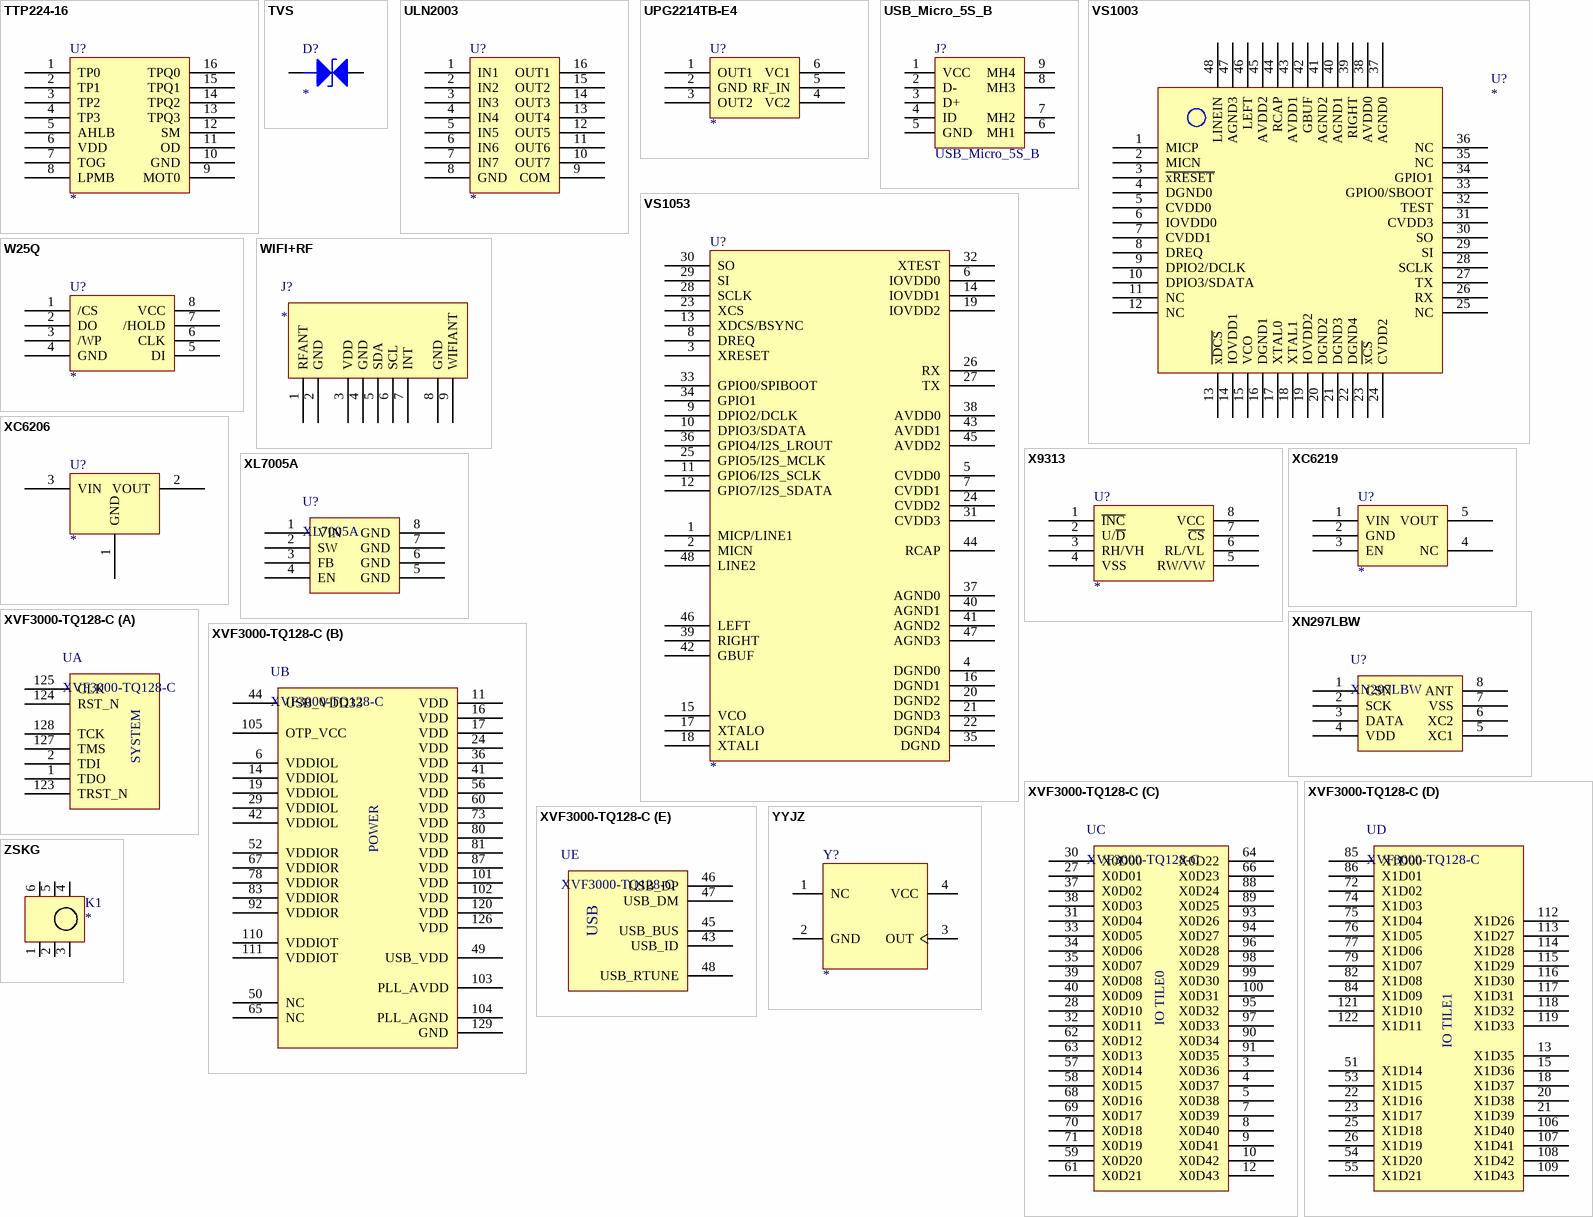
[diagram p22: symbols TTP224-16 to ZSKG]

## TTP224-16
designator U?
footprint TSSOP-16
pins: 1 TP0, 2 TP1, 3 TP2, 4 TP3, 5 AHLB, 6 VDD, 7 TOG, 8 LPMB, 9 MOT0, 10 GND, 11 OD, 12 SM, 13 TPQ3, 14 TPQ2, 15 TPQ1, 16 TPQ0

## TVS
designator D?
Zener Diode
footprint DO-214AA
pins: 1, 2

## ULN2003
designator U?
footprint SOP-16
pins: 1 IN1, 2 IN2, 3 IN3, 4 IN4, 5 IN5, 6 IN6, 7 IN7, 8 GND, 9 COM, 10 OUT7, 11 OUT6, 12 OUT5, 13 OUT4, 14 OUT3, 15 OUT2, 16 OUT1

## UPG2214TB-E4
designator U?
footprint SOT-363
pins: 1 OUT1, 2 GND, 3 OUT2, 4 VC2, 5 RF_IN, 6 VC1

## USB_Micro_5S_B
designator J?
USB micro female SMT with 4 fixed foot
footprint USB-MICRO5
pins: 1 VCC, 2 D-, 3 D+, 4 ID, 5 GND, 6 MH1, 7 MH2, 8 MH3, 9 MH4

## VS1003
designator U?
VS1003
footprint LQFP-48
pins: 1 MICP, 2 MICN, 3 ~{xRESET}, 4 DGND0, 5 CVDD0, 6 IOVDD0, 7 CVDD1, 8 DREQ, 9 DPIO2/DCLK, 10 DPIO3/SDATA, 11 NC, 12 NC, 13 ~{xDCS}, 14 IOVDD1, 15 VCO, 16 DGND1, 17 XTAL0, 18 XTAL1, 19 IOVDD2, 20 DGND2, 21 DGND3, 22 DGND4, 23 ~{xCS}, 24 CVDD2, 25 NC, 26 RX, 27 TX, 28 SCLK, 29 SI, 30 SO, 31 CVDD3, 32 TEST, 33 GPIO0/SBOOT, 34 GPIO1, 35 NC, 36 NC, 37 AGND0, 38 AVDD0, 39 RIGHT, 40 AGND1, 41 AGND2, 42 GBUF, 43 AVDD1, 44 RCAP, 45 AVDD2, 46 LEFT, 47 AGND3, 48 LINEIN

## VS1053
designator U?
VS1003
footprint LQFP-48
pins: 1 MICP/LINE1, 2 MICN, 3 XRESET, 4 DGND0, 5 CVDD0, 6 IOVDD0, 7 CVDD1, 8 DREQ, 9 DPIO2/DCLK, 10 DPIO3/SDATA, 11 GPIO6/I2S_SCLK, 12 GPIO7/I2S_SDATA, 13 XDCS/BSYNC, 14 IOVDD1, 15 VCO, 16 DGND1, 17 XTALO, 18 XTALI, 19 IOVDD2, 20 DGND2, 21 DGND3, 22 DGND4, 23 XCS, 24 CVDD2, 25 GPIO5/I2S_MCLK, 26 RX, 27 TX, 28 SCLK, 29 SI, 30 SO, 31 CVDD3, 32 XTEST, 33 GPIO0/SPIBOOT, 34 GPIO1, 35 DGND, 36 GPIO4/I2S_LROUT, 37 AGND0, 38 AVDD0, 39 RIGHT, 40 AGND1, 41 AGND2, 42 GBUF, 43 AVDD1, 44 RCAP, 45 AVDD2, 46 LEFT, 47 AGND3, 48 LINE2

## W25Q
designator U?
footprint SOP-8B
pins: 1 /CS, 2 DO, 3 /WP, 4 GND, 5 DI, 6 CLK, 7 /HOLD, 8 VCC

## WIFI+RF
designator J?
footprint WIFI+RF
pins: 1 RFANT, 2 GND, 3 VDD, 4 GND, 5 SDA, 6 SCL, 7 INT, 8 GND, 9 WIFIANT

## X9313
designator U?
footprint DIP-8
pins: 1 ~{INC}, 2 U/~{D}, 3 RH/VH, 4 VSS, 5 RW/VW, 6 RL/VL, 7 ~{CS}, 8 VCC

## XC6206
designator U?
LDO
footprint SOT-23
pins: 1 GND, 2 VOUT, 3 VIN

## XC6219
designator U?
LDO
footprint SOT-23-5
pins: 1 VIN, 2 GND, 3 EN, 4 NC, 5 VOUT

## XL7005A
designator U?
Chip
footprint SOP-8-EP
pins: 1 VIN, 2 SW, 3 FB, 4 EN, 5 GND, 6 GND, 7 GND, 8 GND

## XN297LBW
designator U?
footprint SOP-8
footprint SOP-8-EP
pins: 1 CSN, 2 SCK, 3 DATA, 4 VDD, 5 XC1, 6 XC2, 7 VSS, 8 ANT

## XVF3000-TQ128-C
designator U
footprint LQFP-128 - VSS
part A pins: 1 TDO, 2 TDI, 123 TRST_N, 124 RST_N, 125 CLK, 127 TMS, 128 TCK
part B pins: 6 VDDIOL, 11 VDD, 14 VDDIOL, 16 VDD, 17 VDD, 19 VDDIOL, 24 VDD, 29 VDDIOL, 36 VDD, 41 VDD, 42 VDDIOL, 44 USB_VDD33, 49 USB_VDD, 50 NC, 52 VDDIOR, 56 VDD, 60 VDD, 65 NC, 67 VDDIOR, 73 VDD, 78 VDDIOR, 80 VDD, 81 VDD, 83 VDDIOR, 87 VDD, 92 VDDIOR, 101 VDD, 102 VDD, 103 PLL_AVDD, 104 PLL_AGND, 105 OTP_VCC, 110 VDDIOT, 111 VDDIOT, 120 VDD, 126 VDD, 129 GND
part C pins: 3 X0D36, 4 X0D37, 5 X0D38, 7 X0D39, 8 X0D40, 9 X0D41, 10 X0D42, 12 X0D43, 27 X0D01, 28 X0D10, 30 X0D00, 31 X0D04, 32 X0D11, 33 X0D05, 34 X0D06, 35 X0D07, 37 X0D02, 38 X0D03, 39 X0D08, 40 X0D09, 57 X0D14, 58 X0D15, 59 X0D20, 61 X0D21, 62 X0D12, 63 X0D13, 64 X0D22, 66 X0D23, 68 X0D16, 69 X0D17, 70 X0D18, 71 X0D19, 88 X0D24, 89 X0D25, 90 X0D34, 91 X0D35, 93 X0D26, 94 X0D27, 95 X0D32, 96 X0D28, 97 X0D33, 98 X0D29, 99 X0D30, 100 X0D31
part D pins: 13 X1D35, 15 X1D36, 18 X1D37, 20 X1D38, 21 X1D39, 22 X1D16, 23 X1D17, 25 X1D18, 26 X1D19, 51 X1D14, 53 X1D15, 54 X1D20, 55 X1D21, 72 X1D02, 74 X1D03, 75 X1D04, 76 X1D05, 77 X1D06, 79 X1D07, 82 X1D08, 84 X1D09, 85 X1D00, 86 X1D01, 106 X1D40, 107 X1D41, 108 X1D42, 109 X1D43, 112 X1D26, 113 X1D27, 114 X1D28, 115 X1D29, 116 X1D30, 117 X1D31, 118 X1D32, 119 X1D33, 121 X1D10, 122 X1D11
part E pins: 43 USB_ID, 45 USB_BUS, 46 USB_DP, 47 USB_DM, 48 USB_RTUNE
part A text: SYSTEM
part B text: POWER
part C text: IO TILE0
part D text: IO TILE1
part E text: USB

## YYJZ
designator Y?
pins: 1 NC, 2 GND, 3 OUT, 4 VCC

## ZSKG
designator K1
footprint SW-ZS-8.5
pins: 1, 2, 3, 4, 5, 6